# Altium integrated library Altera Arria V GZ.IntLib: 32 symbols (part 7 of 36)
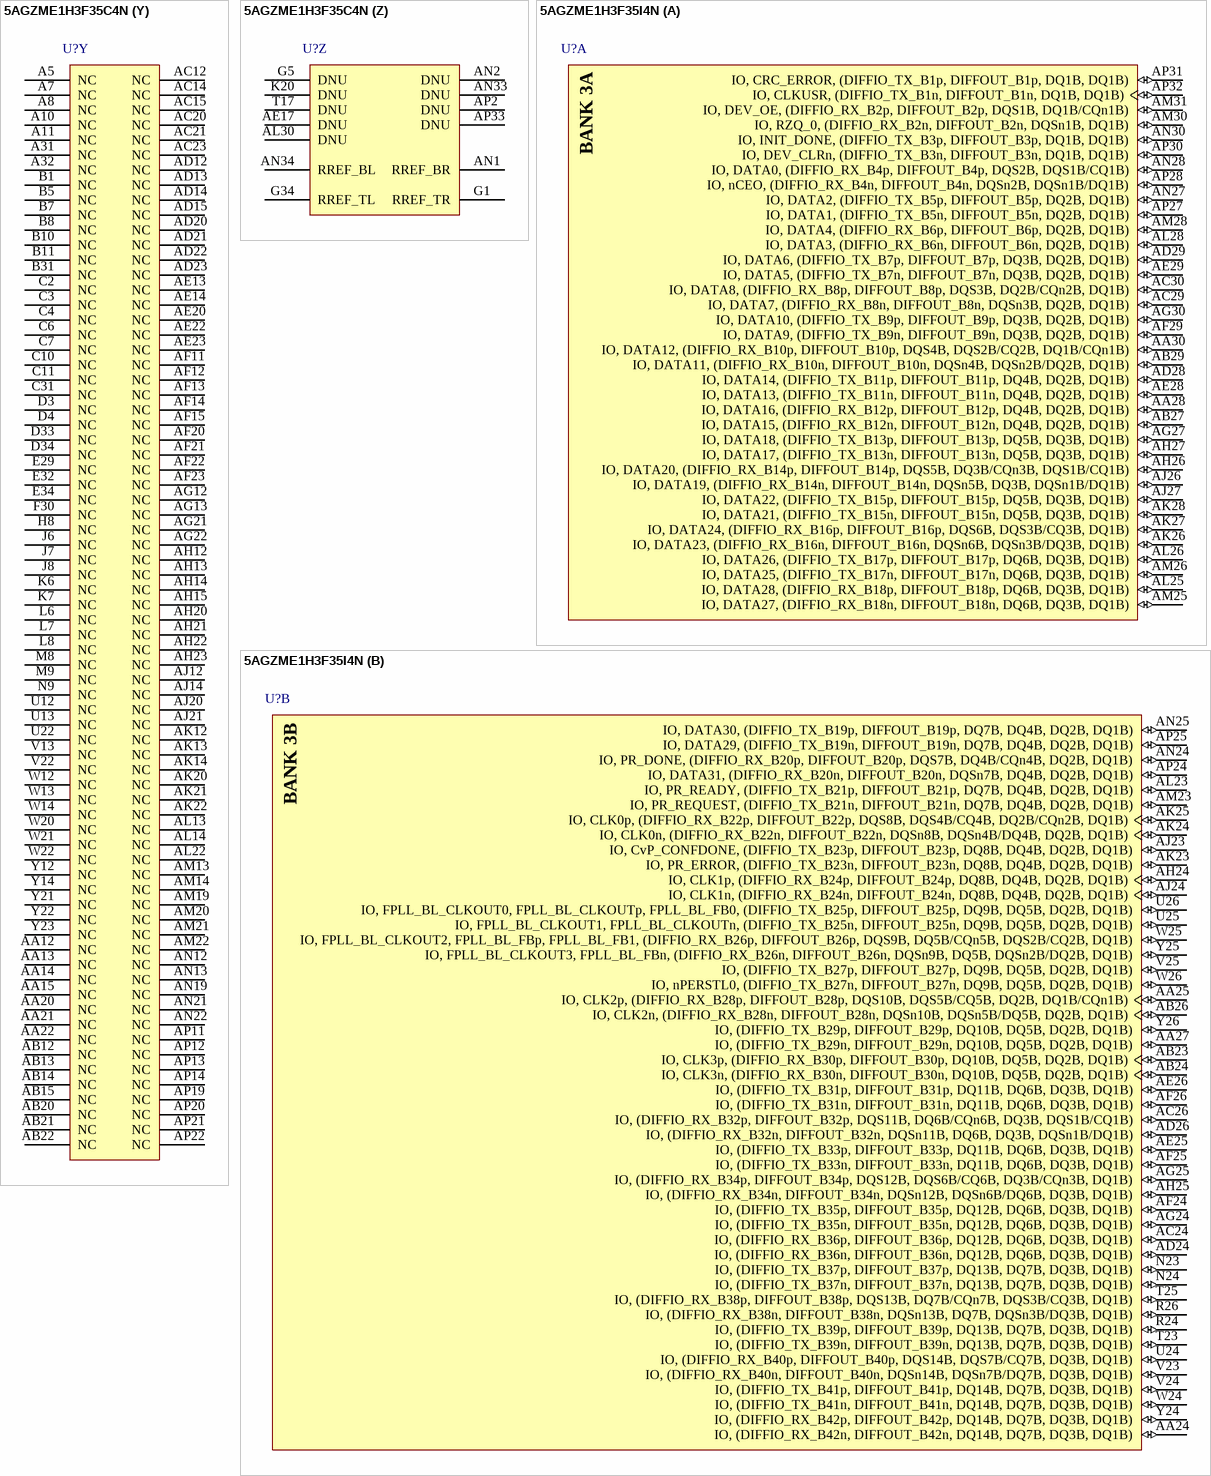
[diagram p207: symbols 5AGZME1H3F35C4N to 5AGZME1H3F35I4N]

## 5AGZME1H3F35C4N
designator U?
Arria V GZ Family FPGA, 0.82 to 0.88 V Supply, 414 I/O Pins, 20 PLLs, 1152-Pin FBGA, Speed Grade 4, Commercial Grade, RoHS Compliant; Manufacturer: Altera; Device Group: 5AGZME1; GPIO: 414; Logic Elements (LE) (K): 220; NexusDeviceID: 5AGZME1H3F35C4N; Pb-Free: TRUE; Speed Grade: 4; DatasheetVersion: Rev. 3.5; PackageVersion: Rev. 1.0, 05/2011; PackageReference: FBGA1152_A-350_D1-289; PackageDescription: 1152-Pin FineLine Ball-Grid Array (FBGA), Body 35 x 35 mm, Pitch 1 mm; Supplier 1: Digi-Key; Supplier Part Number 1: 5AGZME1H3F35C4N-ND; Supplier 2: Mouser; Supplier Part Number 2: 989-5AGZME1H3F35C4N; RoHS: RoHS Compliant; Subcategory: Arria V GZ; Voltage Supply: 0.82 to 0.88 V; Mounting Technology: Surface Mount; Code_JEDEC: MS-034; PartNumber: 5AGZME1H3F35C4N; ComponentLink1Description: Manufacturer URL; ComponentLink1URL: http://www.altera.com; ComponentLink2Description: Datasheet; ComponentLink2URL: http://www.altera.com/literature/hb/arria-v/av_51002.pdf; ComponentLink3Description: Package Specification; ComponentLink3URL: http://www.altera.com/devicepackaging/04R00390-02.pdf; ComponentLink4Description: Device Handbook URL; ComponentLink4URL: http://www.altera.com/literature/hb/arria-v/arriav_handbook.pdf; ComponentLink5Description: Device Overview URL; ComponentLink5URL: http://www.altera.com/literature/hb/arria-v/av_51001.pdf; ComponentLink6Description: Device Pin-Out URL; ComponentLink6URL: http://www.altera.com/literature/dp/arria-v/5AGZME1.xls; ComponentLink7Description: Product URL; ComponentLink7URL: http://www.buyaltera.com/scripts/partsearch.dll?Detail&name=5AGZME1H3F35C4N-ND
footprint ALTR-FBGA1152_A-350_D1-289 (BGA, 1152-Balls, Body 35x35mm, Pitch 1mm)
part A pins: AA28 IO, DATA16, (DIFFIO_RX_B12p, DIFFOUT_B12p, DQ4B, DQ2B, DQ1B) (io), AA30 IO, DATA12, (DIFFIO_RX_B10p, DIFFOUT_B10p, DQS4B, DQS2B/CQ2B, DQ1B/CQn1B) (io), AB27 IO, DATA15, (DIFFIO_RX_B12n, DIFFOUT_B12n, DQ4B, DQ2B, DQ1B) (io), AB29 IO, DATA11, (DIFFIO_RX_B10n, DIFFOUT_B10n, DQSn4B, DQSn2B/DQ2B, DQ1B) (io), AC29 IO, DATA7, (DIFFIO_RX_B8n, DIFFOUT_B8n, DQSn3B, DQ2B, DQ1B) (io), AC30 IO, DATA8, (DIFFIO_RX_B8p, DIFFOUT_B8p, DQS3B, DQ2B/CQn2B, DQ1B) (io), AD28 IO, DATA14, (DIFFIO_TX_B11p, DIFFOUT_B11p, DQ4B, DQ2B, DQ1B) (io), AD29 IO, DATA6, (DIFFIO_TX_B7p, DIFFOUT_B7p, DQ3B, DQ2B, DQ1B) (io), AE28 IO, DATA13, (DIFFIO_TX_B11n, DIFFOUT_B11n, DQ4B, DQ2B, DQ1B) (io), AE29 IO, DATA5, (DIFFIO_TX_B7n, DIFFOUT_B7n, DQ3B, DQ2B, DQ1B) (io), AF29 IO, DATA9, (DIFFIO_TX_B9n, DIFFOUT_B9n, DQ3B, DQ2B, DQ1B) (io), AG27 IO, DATA18, (DIFFIO_TX_B13p, DIFFOUT_B13p, DQ5B, DQ3B, DQ1B) (io), AG30 IO, DATA10, (DIFFIO_TX_B9p, DIFFOUT_B9p, DQ3B, DQ2B, DQ1B) (io), AH26 IO, DATA20, (DIFFIO_RX_B14p, DIFFOUT_B14p, DQS5B, DQ3B/CQn3B, DQS1B/CQ1B) (io), AH27 IO, DATA17, (DIFFIO_TX_B13n, DIFFOUT_B13n, DQ5B, DQ3B, DQ1B) (io), AJ26 IO, DATA19, (DIFFIO_RX_B14n, DIFFOUT_B14n, DQSn5B, DQ3B, DQSn1B/DQ1B) (io), AJ27 IO, DATA22, (DIFFIO_TX_B15p, DIFFOUT_B15p, DQ5B, DQ3B, DQ1B) (io), AK26 IO, DATA23, (DIFFIO_RX_B16n, DIFFOUT_B16n, DQSn6B, DQSn3B/DQ3B, DQ1B) (io), AK27 IO, DATA24, (DIFFIO_RX_B16p, DIFFOUT_B16p, DQS6B, DQS3B/CQ3B, DQ1B) (io), AK28 IO, DATA21, (DIFFIO_TX_B15n, DIFFOUT_B15n, DQ5B, DQ3B, DQ1B) (io), AL25 IO, DATA28, (DIFFIO_RX_B18p, DIFFOUT_B18p, DQ6B, DQ3B, DQ1B) (io), AL26 IO, DATA26, (DIFFIO_TX_B17p, DIFFOUT_B17p, DQ6B, DQ3B, DQ1B) (io), AL28 IO, DATA3, (DIFFIO_RX_B6n, DIFFOUT_B6n, DQ2B, DQ1B) (io), AM25 IO, DATA27, (DIFFIO_RX_B18n, DIFFOUT_B18n, DQ6B, DQ3B, DQ1B) (io), AM26 IO, DATA25, (DIFFIO_TX_B17n, DIFFOUT_B17n, DQ6B, DQ3B, DQ1B) (io), AM28 IO, DATA4, (DIFFIO_RX_B6p, DIFFOUT_B6p, DQ2B, DQ1B) (io), AM30 IO, RZQ_0, (DIFFIO_RX_B2n, DIFFOUT_B2n, DQSn1B, DQ1B) (io), AM31 IO, DEV_OE, (DIFFIO_RX_B2p, DIFFOUT_B2p, DQS1B, DQ1B/CQn1B) (io), AN27 IO, DATA2, (DIFFIO_TX_B5p, DIFFOUT_B5p, DQ2B, DQ1B) (io), AN28 IO, DATA0, (DIFFIO_RX_B4p, DIFFOUT_B4p, DQS2B, DQS1B/CQ1B) (io), AN30 IO, INIT_DONE, (DIFFIO_TX_B3p, DIFFOUT_B3p, DQ1B, DQ1B) (io), AP27 IO, DATA1, (DIFFIO_TX_B5n, DIFFOUT_B5n, DQ2B, DQ1B) (io), AP28 IO, nCEO, (DIFFIO_RX_B4n, DIFFOUT_B4n, DQSn2B, DQSn1B/DQ1B) (io), AP30 IO, DEV_CLRn, (DIFFIO_TX_B3n, DIFFOUT_B3n, DQ1B, DQ1B) (io), AP31 IO, CRC_ERROR, (DIFFIO_TX_B1p, DIFFOUT_B1p, DQ1B, DQ1B) (io), AP32 IO, CLKUSR, (DIFFIO_TX_B1n, DIFFOUT_B1n, DQ1B, DQ1B) (io)
part B pins: AA24 IO, (DIFFIO_RX_B42n, DIFFOUT_B42n, DQ14B, DQ7B, DQ3B, DQ1B) (io), AA25 IO, CLK2p, (DIFFIO_RX_B28p, DIFFOUT_B28p, DQS10B, DQS5B/CQ5B, DQ2B, DQ1B/CQn1B) (io), AA27 IO, (DIFFIO_TX_B29n, DIFFOUT_B29n, DQ10B, DQ5B, DQ2B, DQ1B) (io), AB23 IO, CLK3p, (DIFFIO_RX_B30p, DIFFOUT_B30p, DQ10B, DQ5B, DQ2B, DQ1B) (io), AB24 IO, CLK3n, (DIFFIO_RX_B30n, DIFFOUT_B30n, DQ10B, DQ5B, DQ2B, DQ1B) (io), AB26 IO, CLK2n, (DIFFIO_RX_B28n, DIFFOUT_B28n, DQSn10B, DQSn5B/DQ5B, DQ2B, DQ1B) (io), AC24 IO, (DIFFIO_RX_B36p, DIFFOUT_B36p, DQ12B, DQ6B, DQ3B, DQ1B) (io), AC26 IO, (DIFFIO_RX_B32p, DIFFOUT_B32p, DQS11B, DQ6B/CQn6B, DQ3B, DQS1B/CQ1B) (io), AD24 IO, (DIFFIO_RX_B36n, DIFFOUT_B36n, DQ12B, DQ6B, DQ3B, DQ1B) (io), AD26 IO, (DIFFIO_RX_B32n, DIFFOUT_B32n, DQSn11B, DQ6B, DQ3B, DQSn1B/DQ1B) (io), AE25 IO, (DIFFIO_TX_B33p, DIFFOUT_B33p, DQ11B, DQ6B, DQ3B, DQ1B) (io), AE26 IO, (DIFFIO_TX_B31p, DIFFOUT_B31p, DQ11B, DQ6B, DQ3B, DQ1B) (io), AF24 IO, (DIFFIO_TX_B35p, DIFFOUT_B35p, DQ12B, DQ6B, DQ3B, DQ1B) (io), AF25 IO, (DIFFIO_TX_B33n, DIFFOUT_B33n, DQ11B, DQ6B, DQ3B, DQ1B) (io), AF26 IO, (DIFFIO_TX_B31n, DIFFOUT_B31n, DQ11B, DQ6B, DQ3B, DQ1B) (io), AG24 IO, (DIFFIO_TX_B35n, DIFFOUT_B35n, DQ12B, DQ6B, DQ3B, DQ1B) (io), AG25 IO, (DIFFIO_RX_B34p, DIFFOUT_B34p, DQS12B, DQS6B/CQ6B, DQ3B/CQn3B, DQ1B) (io), AH24 IO, CLK1p, (DIFFIO_RX_B24p, DIFFOUT_B24p, DQ8B, DQ4B, DQ2B, DQ1B) (io), AH25 IO, (DIFFIO_RX_B34n, DIFFOUT_B34n, DQSn12B, DQSn6B/DQ6B, DQ3B, DQ1B) (io), AJ23 IO, CvP_CONFDONE, (DIFFIO_TX_B23p, DIFFOUT_B23p, DQ8B, DQ4B, DQ2B, DQ1B) (io), AJ24 IO, CLK1n, (DIFFIO_RX_B24n, DIFFOUT_B24n, DQ8B, DQ4B, DQ2B, DQ1B) (io), AK23 IO, PR_ERROR, (DIFFIO_TX_B23n, DIFFOUT_B23n, DQ8B, DQ4B, DQ2B, DQ1B) (io), AK24 IO, CLK0n, (DIFFIO_RX_B22n, DIFFOUT_B22n, DQSn8B, DQSn4B/DQ4B, DQ2B, DQ1B) (io), AK25 IO, CLK0p, (DIFFIO_RX_B22p, DIFFOUT_B22p, DQS8B, DQS4B/CQ4B, DQ2B/CQn2B, DQ1B) (io), AL23 IO, PR_READY, (DIFFIO_TX_B21p, DIFFOUT_B21p, DQ7B, DQ4B, DQ2B, DQ1B) (io), AM23 IO, PR_REQUEST, (DIFFIO_TX_B21n, DIFFOUT_B21n, DQ7B, DQ4B, DQ2B, DQ1B) (io), AN24 IO, PR_DONE, (DIFFIO_RX_B20p, DIFFOUT_B20p, DQS7B, DQ4B/CQn4B, DQ2B, DQ1B) (io), AN25 IO, DATA30, (DIFFIO_TX_B19p, DIFFOUT_B19p, DQ7B, DQ4B, DQ2B, DQ1B) (io), AP24 IO, DATA31, (DIFFIO_RX_B20n, DIFFOUT_B20n, DQSn7B, DQ4B, DQ2B, DQ1B) (io), AP25 IO, DATA29, (DIFFIO_TX_B19n, DIFFOUT_B19n, DQ7B, DQ4B, DQ2B, DQ1B) (io), N23 IO, (DIFFIO_TX_B37p, DIFFOUT_B37p, DQ13B, DQ7B, DQ3B, DQ1B) (io), N24 IO, (DIFFIO_TX_B37n, DIFFOUT_B37n, DQ13B, DQ7B, DQ3B, DQ1B) (io), R24 IO, (DIFFIO_TX_B39p, DIFFOUT_B39p, DQ13B, DQ7B, DQ3B, DQ1B) (io), R26 IO, (DIFFIO_RX_B38n, DIFFOUT_B38n, DQSn13B, DQ7B, DQSn3B/DQ3B, DQ1B) (io), T23 IO, (DIFFIO_TX_B39n, DIFFOUT_B39n, DQ13B, DQ7B, DQ3B, DQ1B) (io), T25 IO, (DIFFIO_RX_B38p, DIFFOUT_B38p, DQS13B, DQ7B/CQn7B, DQS3B/CQ3B, DQ1B) (io), U24 IO, (DIFFIO_RX_B40p, DIFFOUT_B40p, DQS14B, DQS7B/CQ7B, DQ3B, DQ1B) (io), U25 IO, FPLL_BL_CLKOUT1, FPLL_BL_CLKOUTn, (DIFFIO_TX_B25n, DIFFOUT_B25n, DQ9B, DQ5B, DQ2B, DQ1B) (io), U26 IO, FPLL_BL_CLKOUT0, FPLL_BL_CLKOUTp, FPLL_BL_FB0, (DIFFIO_TX_B25p, DIFFOUT_B25p, DQ9B, DQ5B, DQ2B, DQ1B) (io), V23 IO, (DIFFIO_RX_B40n, DIFFOUT_B40n, DQSn14B, DQSn7B/DQ7B, DQ3B, DQ1B) (io), V24 IO, (DIFFIO_TX_B41p, DIFFOUT_B41p, DQ14B, DQ7B, DQ3B, DQ1B) (io), V25 IO, (DIFFIO_TX_B27p, DIFFOUT_B27p, DQ9B, DQ5B, DQ2B, DQ1B) (io), W24 IO, (DIFFIO_TX_B41n, DIFFOUT_B41n, DQ14B, DQ7B, DQ3B, DQ1B) (io), W25 IO, FPLL_BL_CLKOUT2, FPLL_BL_FBp, FPLL_BL_FB1, (DIFFIO_RX_B26p, DIFFOUT_B26p, DQS9B, DQ5B/CQn5B, DQS2B/CQ2B, DQ1B) (io), W26 IO, nPERSTL0, (DIFFIO_TX_B27n, DIFFOUT_B27n, DQ9B, DQ5B, DQ2B, DQ1B) (io), Y24 IO, (DIFFIO_RX_B42p, DIFFOUT_B42p, DQ14B, DQ7B, DQ3B, DQ1B) (io), Y25 IO, FPLL_BL_CLKOUT3, FPLL_BL_FBn, (DIFFIO_RX_B26n, DIFFOUT_B26n, DQSn9B, DQ5B, DQSn2B/DQ2B, DQ1B) (io), Y26 IO, (DIFFIO_TX_B29p, DIFFOUT_B29p, DQ10B, DQ5B, DQ2B, DQ1B) (io)
part C pins: AA18 IO, (DIFFIO_RX_B74n, DIFFOUT_B74n, DQSn25B, DQ9B, DQSn4B/DQ4B) (io), AB18 IO, CLK4p, (DIFFIO_RX_B76p, DIFFOUT_B76p, DQS26B, DQS9B/CQ9B, DQ4B) (io), AB19 IO, CLK4n, (DIFFIO_RX_B76n, DIFFOUT_B76n, DQSn26B, DQSn9B/DQ9B, DQ4B) (io), AE19 IO, (DIFFIO_TX_B77p, DIFFOUT_B77p, DQ26B, DQ9B, DQ4B) (io), AF18 IO, CLK5p, (DIFFIO_RX_B78p, DIFFOUT_B78p, DQ26B, DQ9B, DQ4B) (io), AF19 IO, (DIFFIO_TX_B77n, DIFFOUT_B77n, DQ26B, DQ9B, DQ4B) (io), AG18 IO, CLK5n, (DIFFIO_RX_B78n, DIFFOUT_B78n, DQ26B, DQ9B, DQ4B) (io), AG19 IO, (DIFFIO_TX_B71p, DIFFOUT_B71p, DQ24B, DQ8B, DQ4B) (io), AH18 IO, (DIFFIO_TX_B71n, DIFFOUT_B71n, DQ24B, DQ8B, DQ4B) (io), AJ18 IO, (DIFFIO_RX_B72p, DIFFOUT_B72p, DQ24B, DQ8B, DQ4B) (io), AK17 IO, (DIFFIO_RX_B70p, DIFFOUT_B70p, DQS24B, DQS8B/CQ8B, DQ4B/CQn4B) (io), AK18 IO, (DIFFIO_RX_B70n, DIFFOUT_B70n, DQSn24B, DQSn8B/DQ8B, DQ4B) (io), AK19 IO, (DIFFIO_RX_B72n, DIFFOUT_B72n, DQ24B, DQ8B, DQ4B) (io), AL17 IO, (DIFFIO_TX_B69p, DIFFOUT_B69p, DQ23B, DQ8B, DQ4B) (io), AL19 IO, (DIFFIO_RX_B68p, DIFFOUT_B68p, DQS23B, DQ8B/CQn8B, DQ4B) (io), AM17 IO, (DIFFIO_TX_B69n, DIFFOUT_B69n, DQ23B, DQ8B, DQ4B) (io), AM18 IO, (DIFFIO_RX_B68n, DIFFOUT_B68n, DQSn23B, DQ8B, DQ4B) (io), AN18 IO, (DIFFIO_TX_B67p, DIFFOUT_B67p, DQ23B, DQ8B, DQ4B) (io), AP18 IO, (DIFFIO_TX_B67n, DIFFOUT_B67n, DQ23B, DQ8B, DQ4B) (io), W18 IO, (DIFFIO_TX_B75p, DIFFOUT_B75p, DQ25B, DQ9B, DQ4B) (io), W19 IO, (DIFFIO_TX_B73p, DIFFOUT_B73p, DQ25B, DQ9B, DQ4B) (io), Y17 IO, (DIFFIO_RX_B74p, DIFFOUT_B74p, DQS25B, DQ9B/CQn9B, DQS4B/CQ4B) (io), Y18 IO, (DIFFIO_TX_B75n, DIFFOUT_B75n, DQ25B, DQ9B, DQ4B) (io), Y19 IO, (DIFFIO_TX_B73n, DIFFOUT_B73n, DQ25B, DQ9B, DQ4B) (io)
part D pins: AB6 IO, CLK10p, (DIFFIO_RX_B154p, DIFFOUT_B154p, DQS52B, DQS16B/CQ16B, DQ8B/CQn8B) (io), AB7 IO, CLK10n, (DIFFIO_RX_B154n, DIFFOUT_B154n, DQSn52B, DQSn16B/DQ16B, DQ8B) (io), AB8 IO, CLK11p, (DIFFIO_RX_B152p, DIFFOUT_B152p, DQS51B, DQ16B/CQn16B, DQ8B) (io), AC6 IO, FPLL_BR_CLKOUT2, FPLL_BR_FBp, FPLL_BR_FB1, (DIFFIO_RX_B156p, DIFFOUT_B156p, DQ52B, DQ16B, DQ8B) (io), AC8 IO, CLK11n, (DIFFIO_RX_B152n, DIFFOUT_B152n, DQSn51B, DQ16B, DQ8B) (io), AD6 IO, FPLL_BR_CLKOUT3, FPLL_BR_FBn, (DIFFIO_RX_B156n, DIFFOUT_B156n, DQ52B, DQ16B, DQ8B) (io), AD7 IO, (DIFFIO_TX_B151p, DIFFOUT_B151p, DQ51B, DQ16B, DQ8B) (io), AD8 IO, (DIFFIO_TX_B151n, DIFFOUT_B151n, DQ51B, DQ16B, DQ8B) (io), AF6 IO, FPLL_BR_CLKOUT0, FPLL_BR_CLKOUTp, FPLL_BR_FB0, (DIFFIO_TX_B155p, DIFFOUT_B155p, DQ52B, DQ16B, DQ8B) (io), AF7 IO, (DIFFIO_TX_B153p, DIFFOUT_B153p, DQ51B, DQ16B, DQ8B) (io), AG6 IO, FPLL_BR_CLKOUT1, FPLL_BR_CLKOUTn, (DIFFIO_TX_B155n, DIFFOUT_B155n, DQ52B, DQ16B, DQ8B) (io), AG7 IO, (DIFFIO_TX_B153n, DIFFOUT_B153n, DQ51B, DQ16B, DQ8B) (io), AK8 IO, (DIFFIO_TX_B157p, DIFFOUT_B157p, DQ53B, DQ17B, DQ8B) (io), AL7 IO, CLK9p, (DIFFIO_RX_B158p, DIFFOUT_B158p, DQS53B, DQ17B/CQn17B, DQS8B/CQ8B) (io), AL8 IO, (DIFFIO_TX_B157n, DIFFOUT_B157n, DQ53B, DQ17B, DQ8B) (io), AM5 IO, (DIFFIO_RX_B162n, DIFFOUT_B162n, DQ54B, DQ17B, DQ8B) (io), AM6 IO, RZQ_1, (DIFFIO_RX_B162p, DIFFOUT_B162p, DQ54B, DQ17B, DQ8B) (io), AM7 IO, CLK9n, (DIFFIO_RX_B158n, DIFFOUT_B158n, DQSn53B, DQ17B, DQSn8B/DQ8B) (io), AN4 IO, CLK8p, (DIFFIO_RX_B160p, DIFFOUT_B160p, DQS54B, DQS17B/CQ17B, DQ8B) (io), AN6 IO, (DIFFIO_TX_B161p, DIFFOUT_B161p, DQ54B, DQ17B, DQ8B) (io), AN7 IO, (DIFFIO_TX_B159p, DIFFOUT_B159p, DQ53B, DQ17B, DQ8B) (io), AP4 IO, CLK8n, (DIFFIO_RX_B160n, DIFFOUT_B160n, DQSn54B, DQSn17B/DQ17B, DQ8B) (io), AP6 IO, (DIFFIO_TX_B161n, DIFFOUT_B161n, DQ54B, DQ17B, DQ8B) (io), AP7 IO, (DIFFIO_TX_B159n, DIFFOUT_B159n, DQ53B, DQ17B, DQ8B) (io)
part E pins: AA8 IO, (DIFFIO_TX_B141n, DIFFOUT_B141n, DQ47B, DQ14B, DQ7B, DQ2B) (io), AA9 IO, (DIFFIO_TX_B139p, DIFFOUT_B139p, DQ47B, DQ14B, DQ7B, DQ2B) (io), AB9 IO, (DIFFIO_TX_B139n, DIFFOUT_B139n, DQ47B, DQ14B, DQ7B, DQ2B) (io), AB10 IO, (DIFFIO_RX_B128n, DIFFOUT_B128n, DQSn43B, DQ12B, DQ6B, DQ2B) (io), AB11 IO, (DIFFIO_RX_B128p, DIFFOUT_B128p, DQS43B, DQ12B/CQn12B, DQ6B, DQ2B) (io), AC9 IO, (DIFFIO_RX_B140p, DIFFOUT_B140p, DQS47B, DQ14B/CQn14B, DQ7B, DQS2B/CQ2B) (io), AC11 IO, (DIFFIO_TX_B127n, DIFFOUT_B127n, DQ43B, DQ12B, DQ6B, DQ2B) (io), AD9 IO, (DIFFIO_RX_B140n, DIFFOUT_B140n, DQSn47B, DQ14B, DQ7B, DQSn2B/DQ2B) (io), AD11 IO, (DIFFIO_TX_B127p, DIFFOUT_B127p, DQ43B, DQ12B, DQ6B, DQ2B) (io), AE8 IO, (DIFFIO_RX_B136p, DIFFOUT_B136p, DQS46B, DQS13B/CQ13B, DQ6B, DQ2B/CQn2B) (io), AE10 IO, (DIFFIO_TX_B129n, DIFFOUT_B129n, DQ43B, DQ12B, DQ6B, DQ2B) (io), AE11 IO, (DIFFIO_TX_B129p, DIFFOUT_B129p, DQ43B, DQ12B, DQ6B, DQ2B) (io), AF8 IO, (DIFFIO_RX_B136n, DIFFOUT_B136n, DQSn46B, DQSn13B/DQ13B, DQ6B, DQ2B) (io), AF9 IO, (DIFFIO_TX_B135p, DIFFOUT_B135p, DQ45B, DQ13B, DQ6B, DQ2B) (io), AF10 IO, (DIFFIO_TX_B135n, DIFFOUT_B135n, DQ45B, DQ13B, DQ6B, DQ2B) (io), AG9 IO, (DIFFIO_RX_B138p, DIFFOUT_B138p, DQ46B, DQ13B, DQ6B, DQ2B) (io), AG10 IO, (DIFFIO_RX_B134p, DIFFOUT_B134p, DQS45B, DQ13B/CQn13B, DQS6B/CQ6B, DQ2B) (io), AH8 IO, (DIFFIO_TX_B137p, DIFFOUT_B137p, DQ46B, DQ13B, DQ6B, DQ2B) (io), AH9 IO, (DIFFIO_RX_B138n, DIFFOUT_B138n, DQ46B, DQ13B, DQ6B, DQ2B) (io), AH10 IO, (DIFFIO_RX_B134n, DIFFOUT_B134n, DQSn45B, DQ13B, DQSn6B/DQ6B, DQ2B) (io), AH11 IO, (DIFFIO_TX_B133p, DIFFOUT_B133p, DQ45B, DQ13B, DQ6B, DQ2B) (io), AJ8 IO, (DIFFIO_TX_B137n, DIFFOUT_B137n, DQ46B, DQ13B, DQ6B, DQ2B) (io), AJ9 IO, (DIFFIO_RX_B146p, DIFFOUT_B146p, DQS49B, DQ15B/CQn15B, DQS7B/CQ7B, DQ2B) (io), AJ11 IO, (DIFFIO_TX_B133n, DIFFOUT_B133n, DQ45B, DQ13B, DQ6B, DQ2B) (io), AK9 IO, (DIFFIO_RX_B146n, DIFFOUT_B146n, DQSn49B, DQ15B, DQSn7B/DQ7B, DQ2B) (io), AK10 IO, (DIFFIO_TX_B145p, DIFFOUT_B145p, DQ49B, DQ15B, DQ7B, DQ2B) (io), AK11 IO, (DIFFIO_TX_B145n, DIFFOUT_B145n, DQ49B, DQ15B, DQ7B, DQ2B) (io), AL10 IO, (DIFFIO_RX_B148p, DIFFOUT_B148p, DQS50B, DQS15B/CQ15B, DQ7B, DQ2B) (io), AL11 IO, (DIFFIO_TX_B147p, DIFFOUT_B147p, DQ49B, DQ15B, DQ7B, DQ2B) (io), AM10 IO, (DIFFIO_RX_B148n, DIFFOUT_B148n, DQSn50B, DQSn15B/DQ15B, DQ7B, DQ2B) (io), AM11 IO, (DIFFIO_TX_B147n, DIFFOUT_B147n, DQ49B, DQ15B, DQ7B, DQ2B) (io), AN9 IO, (DIFFIO_TX_B149p, DIFFOUT_B149p, DQ50B, DQ15B, DQ7B, DQ2B) (io), AN10 IO, (DIFFIO_RX_B150p, DIFFOUT_B150p, DQ50B, DQ15B, DQ7B, DQ2B) (io), AP9 IO, (DIFFIO_TX_B149n, DIFFOUT_B149n, DQ50B, DQ15B, DQ7B, DQ2B) (io), AP10 IO, (DIFFIO_RX_B150n, DIFFOUT_B150n, DQ50B, DQ15B, DQ7B, DQ2B) (io), R10 IO, (DIFFIO_RX_B142p, DIFFOUT_B142p, DQS48B, DQS14B/CQ14B, DQ7B/CQn7B, DQ2B) (io), T10 IO, (DIFFIO_RX_B142n, DIFFOUT_B142n, DQSn48B, DQSn14B/DQ14B, DQ7B, DQ2B) (io), U9 IO, (DIFFIO_RX_B144p, DIFFOUT_B144p, DQ48B, DQ14B, DQ7B, DQ2B) (io), U10 IO, (DIFFIO_TX_B131p, DIFFOUT_B131p, DQ44B, DQ12B, DQ6B, DQ2B) (io), U11 IO, (DIFFIO_TX_B131n, DIFFOUT_B131n, DQ44B, DQ12B, DQ6B, DQ2B) (io), V10 IO, (DIFFIO_RX_B144n, DIFFOUT_B144n, DQ48B, DQ14B, DQ7B, DQ2B) (io), V11 IO, (DIFFIO_RX_B130p, DIFFOUT_B130p, DQS44B, DQS12B/CQ12B, DQ6B/CQn6B, DQ2B) (io), W9 IO, (DIFFIO_TX_B143p, DIFFOUT_B143p, DQ48B, DQ14B, DQ7B, DQ2B) (io), W10 IO, (DIFFIO_TX_B143n, DIFFOUT_B143n, DQ48B, DQ14B, DQ7B, DQ2B) (io), W11 IO, (DIFFIO_RX_B130n, DIFFOUT_B130n, DQSn44B, DQSn12B/DQ12B, DQ6B, DQ2B) (io), Y9 IO, (DIFFIO_TX_B141p, DIFFOUT_B141p, DQ47B, DQ14B, DQ7B, DQ2B) (io), Y10 IO, (DIFFIO_RX_B132p, DIFFOUT_B132p, DQ44B, DQ12B, DQ6B, DQ2B) (io), Y11 IO, (DIFFIO_RX_B132n, DIFFOUT_B132n, DQ44B, DQ12B, DQ6B, DQ2B) (io)
part F pins: AC17 IO, FPLL_BC_CLKOUT0, FPLL_BC_CLKOUTp, FPLL_BC_FB0, (DIFFIO_TX_B91p, DIFFOUT_B91p, DQ31B, DQ10B, DQ5B) (io), AD16 IO, CLK7n, (DIFFIO_RX_B96n, DIFFOUT_B96n, DQ32B, DQ10B, DQ5B) (io), AD17 IO, FPLL_BC_CLKOUT1, FPLL_BC_CLKOUTn, (DIFFIO_TX_B91n, DIFFOUT_B91n, DQ31B, DQ10B, DQ5B) (io), AE16 IO, CLK7p, (DIFFIO_RX_B96p, DIFFOUT_B96p, DQ32B, DQ10B, DQ5B) (io), AF16 IO, CLK6p, (DIFFIO_RX_B94p, DIFFOUT_B94p, DQS32B, DQS10B/CQ10B, DQ5B/CQn5B) (io), AF17 IO, CLK6n, (DIFFIO_RX_B94n, DIFFOUT_B94n, DQSn32B, DQSn10B/DQ10B, DQ5B) (io), AG15 IO, (DIFFIO_TX_B95n, DIFFOUT_B95n, DQ32B, DQ10B, DQ5B) (io), AG16 IO, (DIFFIO_TX_B95p, DIFFOUT_B95p, DQ32B, DQ10B, DQ5B) (io), AH16 IO, (DIFFIO_TX_B97p, DIFFOUT_B97p, DQ33B, DQ11B, DQ5B) (io), AH17 IO, (DIFFIO_TX_B97n, DIFFOUT_B97n, DQ33B, DQ11B, DQ5B) (io), AJ15 IO, (DIFFIO_RX_B98p, DIFFOUT_B98p, DQS33B, DQ11B/CQn11B, DQS5B/CQ5B) (io), AJ17 IO, (DIFFIO_TX_B99p, DIFFOUT_B99p, DQ33B, DQ11B, DQ5B) (io), AK15 IO, (DIFFIO_RX_B98n, DIFFOUT_B98n, DQSn33B, DQ11B, DQSn5B/DQ5B) (io), AK16 IO, (DIFFIO_TX_B99n, DIFFOUT_B99n, DQ33B, DQ11B, DQ5B) (io), AL16 IO, (DIFFIO_RX_B100n, DIFFOUT_B100n, DQSn34B, DQSn11B/DQ11B, DQ5B) (io), AM16 IO, (DIFFIO_RX_B100p, DIFFOUT_B100p, DQS34B, DQS11B/CQ11B, DQ5B) (io), AN15 IO, (DIFFIO_RX_B102p, DIFFOUT_B102p, DQ34B, DQ11B, DQ5B) (io), AN16 IO, (DIFFIO_TX_B101p, DIFFOUT_B101p, DQ34B, DQ11B, DQ5B) (io), AP15 IO, (DIFFIO_RX_B102n, DIFFOUT_B102n, DQ34B, DQ11B, DQ5B) (io), AP16 IO, (DIFFIO_TX_B101n, DIFFOUT_B101n, DQ34B, DQ11B, DQ5B) (io), W15 IO, (DIFFIO_TX_B93p, DIFFOUT_B93p, DQ31B, DQ10B, DQ5B) (io), W16 IO, (DIFFIO_TX_B93n, DIFFOUT_B93n, DQ31B, DQ10B, DQ5B) (io), W17 IO, FPLL_BC_CLKOUT3, FPLL_BC_FBn, (DIFFIO_RX_B92n, DIFFOUT_B92n, DQSn31B, DQ10B, DQ5B) (io), Y16 IO, FPLL_BC_CLKOUT2, FPLL_BC_FBp, FPLL_BC_FB1, (DIFFIO_RX_B92p, DIFFOUT_B92p, DQS31B, DQ10B/CQn10B, DQ5B) (io)
part G pins: A2 IO, CLK13n, (DIFFIO_RX_T5n, DIFFOUT_T5n) (io), A4 IO, CLK15n, (DIFFIO_RX_T11n, DIFFOUT_T11n) (io), B2 IO, CLK13p, (DIFFIO_RX_T5p, DIFFOUT_T5p) (io), B4 IO, CLK15p, (DIFFIO_RX_T11p, DIFFOUT_T11p) (io), D1 IO, CLK12n, (DIFFIO_RX_T3n, DIFFOUT_T3n, DQSn1T) (io), D6 IO, CLK14p, (DIFFIO_RX_T9p, DIFFOUT_T9p, DQS3T) (io), D7 IO, CLK14n, (DIFFIO_RX_T9n, DIFFOUT_T9n, DQSn3T) (io), E1 IO, CLK12p, (DIFFIO_RX_T3p, DIFFOUT_T3p, DQS1T) (io), E2 IO, (DIFFIO_TX_T2p, DIFFOUT_T2p, DQ1T) (io), E3 IO, (DIFFIO_TX_T2n, DIFFOUT_T2n, DQ1T) (io), E4 IO, FPLL_TR_CLKOUT2, FPLL_TR_FBp, FPLL_TR_FB1, (DIFFIO_RX_T7p, DIFFOUT_T7p, DQ3T) (io), E5 IO, FPLL_TR_CLKOUT3, FPLL_TR_FBn, (DIFFIO_RX_T7n, DIFFOUT_T7n, DQ3T) (io), E6 IO, FPLL_TR_CLKOUT1, FPLL_TR_CLKOUTn, (DIFFIO_TX_T8n, DIFFOUT_T8n, DQ3T) (io), F3 IO, RZQ_4, (DIFFIO_RX_T1p, DIFFOUT_T1p, DQ1T) (io), F4 IO, (DIFFIO_RX_T1n, DIFFOUT_T1n, DQ1T) (io), F5 IO, FPLL_TR_CLKOUT0, FPLL_TR_CLKOUTp, FPLL_TR_FB0, (DIFFIO_TX_T8p, DIFFOUT_T8p, DQ3T) (io)
part H pins: C9 IO, (DIFFIO_RX_T27n, DIFFOUT_T27n, DQSn9T, DQSn3T/DQ3T, DQ2T) (io), D9 IO, (DIFFIO_RX_T27p, DIFFOUT_T27p, DQS9T, DQS3T/CQ3T, DQ2T) (io), D10 IO, (DIFFIO_TX_T30p, DIFFOUT_T30p, DQ10T, DQ3T, DQ2T) (io), E7 IO, (DIFFIO_RX_T25p, DIFFOUT_T25p, DQ9T, DQ3T, DQ2T) (io), E8 IO, (DIFFIO_RX_T25n, DIFFOUT_T25n, DQ9T, DQ3T, DQ2T) (io), E9 IO, (DIFFIO_RX_T29n, DIFFOUT_T29n, DQSn10T, DQ3T, DQSn2T/DQ2T) (io), E10 IO, (DIFFIO_RX_T29p, DIFFOUT_T29p, DQS10T, DQ3T/CQn3T, DQS2T/CQ2T) (io), E11 IO, (DIFFIO_TX_T30n, DIFFOUT_T30n, DQ10T, DQ3T, DQ2T) (io), F8 IO, (DIFFIO_TX_T28p, DIFFOUT_T28p, DQ10T, DQ3T, DQ2T) (io), F9 IO, (DIFFIO_TX_T28n, DIFFOUT_T28n, DQ10T, DQ3T, DQ2T) (io), G7 IO, (DIFFIO_TX_T26p, DIFFOUT_T26p, DQ9T, DQ3T, DQ2T) (io), G8 IO, (DIFFIO_TX_T26n, DIFFOUT_T26n, DQ9T, DQ3T, DQ2T) (io), G9 IO, (DIFFIO_TX_T36n, DIFFOUT_T36n, DQ12T, DQ4T, DQ2T) (io), G10 IO, (DIFFIO_TX_T36p, DIFFOUT_T36p, DQ12T, DQ4T, DQ2T) (io), H10 IO, (DIFFIO_RX_T35n, DIFFOUT_T35n, DQSn12T, DQ4T, DQ2T) (io), J9 IO, (DIFFIO_TX_T34n, DIFFOUT_T34n, DQ12T, DQ4T, DQ2T) (io), J10 IO, (DIFFIO_RX_T35p, DIFFOUT_T35p, DQS12T, DQ4T/CQn4T, DQ2T) (io), K9 IO, (DIFFIO_TX_T34p, DIFFOUT_T34p, DQ12T, DQ4T, DQ2T) (io), L9 IO, (DIFFIO_RX_T33n, DIFFOUT_T33n, DQSn11T, DQSn4T/DQ4T, DQ2T) (io), L10 IO, (DIFFIO_RX_T33p, DIFFOUT_T33p, DQS11T, DQS4T/CQ4T, DQ2T/CQn2T) (io), N10 IO, (DIFFIO_TX_T32p, DIFFOUT_T32p, DQ11T, DQ4T, DQ2T) (io), P10 IO, (DIFFIO_TX_T32n, DIFFOUT_T32n, DQ11T, DQ4T, DQ2T) (io), R9 IO, (DIFFIO_RX_T31n, DIFFOUT_T31n, DQ11T, DQ4T, DQ2T) (io), T9 IO, (DIFFIO_RX_T31p, DIFFOUT_T31p, DQ11T, DQ4T, DQ2T) (io)
part I pins: A13 IO, (DIFFIO_TX_T38p, DIFFOUT_T38p, DQ13T, DQ5T, DQ3T, DQ1T) (io), A14 IO, (DIFFIO_TX_T38n, DIFFOUT_T38n, DQ13T, DQ5T, DQ3T, DQ1T) (io), B13 IO, (DIFFIO_TX_T40n, DIFFOUT_T40n, DQ14T, DQ5T, DQ3T, DQ1T) (io), B14 IO, (DIFFIO_RX_T37n, DIFFOUT_T37n, DQ13T, DQ5T, DQ3T, DQ1T) (io), B16 IO, (DIFFIO_RX_T39n, DIFFOUT_T39n, DQSn13T, DQSn5T/DQ5T, DQ3T, DQ1T) (io), C12 IO, (DIFFIO_TX_T44n, DIFFOUT_T44n, DQ15T, DQ6T, DQ3T, DQ1T) (io), C13 IO, (DIFFIO_TX_T40p, DIFFOUT_T40p, DQ14T, DQ5T, DQ3T, DQ1T) (io), C15 IO, (DIFFIO_RX_T37p, DIFFOUT_T37p, DQ13T, DQ5T, DQ3T, DQ1T) (io), C16 IO, (DIFFIO_RX_T39p, DIFFOUT_T39p, DQS13T, DQS5T/CQ5T, DQ3T, DQ1T) (io), D12 IO, (DIFFIO_TX_T44p, DIFFOUT_T44p, DQ15T, DQ6T, DQ3T, DQ1T) (io), D13 IO, (DIFFIO_TX_T46p, DIFFOUT_T46p, DQ16T, DQ6T, DQ3T, DQ1T) (io), D15 IO, (DIFFIO_TX_T42n, DIFFOUT_T42n, DQ14T, DQ5T, DQ3T, DQ1T) (io), D16 IO, (DIFFIO_RX_T41n, DIFFOUT_T41n, DQSn14T, DQ5T, DQSn3T/DQ3T, DQ1T) (io), E12 IO, (DIFFIO_RX_T43p, DIFFOUT_T43p, DQ15T, DQ6T, DQ3T, DQ1T) (io), E13 IO, (DIFFIO_TX_T46n, DIFFOUT_T46n, DQ16T, DQ6T, DQ3T, DQ1T) (io), E14 IO, (DIFFIO_TX_T48n, DIFFOUT_T48n, DQ16T, DQ6T, DQ3T, DQ1T) (io), E15 IO, (DIFFIO_TX_T42p, DIFFOUT_T42p, DQ14T, DQ5T, DQ3T, DQ1T) (io), E16 IO, (DIFFIO_RX_T41p, DIFFOUT_T41p, DQS14T, DQ5T/CQn5T, DQS3T/CQ3T, DQ1T) (io), F11 IO, (DIFFIO_RX_T45n, DIFFOUT_T45n, DQSn15T, DQSn6T/DQ6T, DQ3T, DQ1T) (io), F12 IO, (DIFFIO_RX_T43n, DIFFOUT_T43n, DQ15T, DQ6T, DQ3T, DQ1T) (io), F14 IO, (DIFFIO_TX_T48p, DIFFOUT_T48p, DQ16T, DQ6T, DQ3T, DQ1T) (io), F15 IO, (DIFFIO_RX_T47n, DIFFOUT_T47n, DQSn16T, DQ6T, DQ3T, DQSn1T/DQ1T) (io), G11 IO, (DIFFIO_RX_T45p, DIFFOUT_T45p, DQS15T, DQS6T/CQ6T, DQ3T/CQn3T, DQ1T) (io), G12 IO, (DIFFIO_TX_T52n, DIFFOUT_T52n, DQ18T, DQ7T, DQ4T, DQ1T) (io), G13 IO, (DIFFIO_RX_T55n, DIFFOUT_T55n, DQ19T, DQ8T, DQ4T, DQ1T) (io), G14 IO, (DIFFIO_TX_T56n, DIFFOUT_T56n, DQ19T, DQ8T, DQ4T, DQ1T) (io), G15 IO, (DIFFIO_RX_T47p, DIFFOUT_T47p, DQS16T, DQ6T/CQn6T, DQ3T, DQS1T/CQ1T) (io), G16 IO, (DIFFIO_TX_T58n, DIFFOUT_T58n, DQ20T, DQ8T, DQ4T, DQ1T) (io), H11 IO, (DIFFIO_TX_T52p, DIFFOUT_T52p, DQ18T, DQ7T, DQ4T, DQ1T) (io), H13 IO, (DIFFIO_RX_T55p, DIFFOUT_T55p, DQ19T, DQ8T, DQ4T, DQ1T) (io), H14 IO, (DIFFIO_TX_T56p, DIFFOUT_T56p, DQ19T, DQ8T, DQ4T, DQ1T) (io), H16 IO, (DIFFIO_TX_T58p, DIFFOUT_T58p, DQ20T, DQ8T, DQ4T, DQ1T) (io), J12 IO, (DIFFIO_RX_T53n, DIFFOUT_T53n, DQSn18T, DQ7T, DQSn4T/DQ4T, DQ1T) (io), J13 IO, (DIFFIO_RX_T57n, DIFFOUT_T57n, DQSn19T, DQSn8T/DQ8T, DQ4T, DQ1T) (io), J14 IO, (DIFFIO_RX_T57p, DIFFOUT_T57p, DQS19T, DQS8T/CQ8T, DQ4T/CQn4T, DQ1T) (io), J15 IO, (DIFFIO_RX_T59p, DIFFOUT_T59p, DQS20T, DQ8T/CQn8T, DQ4T, DQ1T) (io), K12 IO, (DIFFIO_RX_T53p, DIFFOUT_T53p, DQS18T, DQ7T/CQn7T, DQS4T/CQ4T, DQ1T) (io), K13 IO, (DIFFIO_TX_T60n, DIFFOUT_T60n, DQ20T, DQ8T, DQ4T, DQ1T) (io), K14 IO, (DIFFIO_TX_T60p, DIFFOUT_T60p, DQ20T, DQ8T, DQ4T, DQ1T) (io), K15 IO, (DIFFIO_RX_T59n, DIFFOUT_T59n, DQSn20T, DQ8T, DQ4T, DQ1T) (io), L11 IO, (DIFFIO_RX_T49n, DIFFOUT_T49n, DQ17T, DQ7T, DQ4T, DQ1T) (io), L12 IO, (DIFFIO_TX_T54p, DIFFOUT_T54p, DQ18T, DQ7T, DQ4T, DQ1T) (io), L13 IO, (DIFFIO_TX_T54n, DIFFOUT_T54n, DQ18T, DQ7T, DQ4T, DQ1T) (io), M12 IO, (DIFFIO_RX_T49p, DIFFOUT_T49p, DQ17T, DQ7T, DQ4T, DQ1T) (io), N11 IO, (DIFFIO_TX_T50p, DIFFOUT_T50p, DQ17T, DQ7T, DQ4T, DQ1T) (io), N12 IO, (DIFFIO_RX_T51p, DIFFOUT_T51p, DQS17T, DQS7T/CQ7T, DQ4T, DQ1T/CQn1T) (io), N13 IO, (DIFFIO_RX_T51n, DIFFOUT_T51n, DQSn17T, DQSn7T/DQ7T, DQ4T, DQ1T) (io), P11 IO, (DIFFIO_TX_T50n, DIFFOUT_T50n, DQ17T, DQ7T, DQ4T, DQ1T) (io)
part J pins: A16 IO, (DIFFIO_RX_T61p, DIFFOUT_T61p, DQ21T, DQ9T, DQ5T) (io), A17 IO, (DIFFIO_RX_T61n, DIFFOUT_T61n, DQ21T, DQ9T, DQ5T) (io), A19 IO, (DIFFIO_TX_T64n, DIFFOUT_T64n, DQ22T, DQ9T, DQ5T) (io), A20 IO, (DIFFIO_TX_T66n, DIFFOUT_T66n, DQ22T, DQ9T, DQ5T) (io), B17 IO, (DIFFIO_TX_T62n, DIFFOUT_T62n, DQ21T, DQ9T, DQ5T) (io), B19 IO, (DIFFIO_TX_T64p, DIFFOUT_T64p, DQ22T, DQ9T, DQ5T) (io), B20 IO, (DIFFIO_TX_T66p, DIFFOUT_T66p, DQ22T, DQ9T, DQ5T) (io), C17 IO, (DIFFIO_TX_T62p, DIFFOUT_T62p, DQ21T, DQ9T, DQ5T) (io), C19 IO, (DIFFIO_RX_T65n, DIFFOUT_T65n, DQSn22T, DQ9T, DQSn5T/DQ5T) (io), D18 IO, (DIFFIO_RX_T63p, DIFFOUT_T63p, DQS21T, DQS9T/CQ9T, DQ5T) (io), D19 IO, (DIFFIO_RX_T65p, DIFFOUT_T65p, DQS22T, DQ9T/CQn9T, DQS5T/CQ5T) (io), D21 IO, (DIFFIO_RX_T77n, DIFFOUT_T77n, DQSn26T, DQ11T) (io), E17 IO, FPLL_TC_CLKOUT2, FPLL_TC_FBp, FPLL_TC_FB1, (DIFFIO_RX_T71p, DIFFOUT_T71p, DQS24T, DQ10T/CQn10T, DQ5T) (io), E18 IO, FPLL_TC_CLKOUT1, FPLL_TC_CLKOUTn, (DIFFIO_TX_T72n, DIFFOUT_T72n, DQ24T, DQ10T, DQ5T) (io), E19 IO, (DIFFIO_RX_T63n, DIFFOUT_T63n, DQSn21T, DQSn9T/DQ9T, DQ5T) (io), E20 IO, (DIFFIO_TX_T78n, DIFFOUT_T78n, DQ26T, DQ11T) (io), E21 IO, (DIFFIO_RX_T77p, DIFFOUT_T77p, DQS26T, DQ11T/CQn11T) (io), F17 IO, FPLL_TC_CLKOUT3, FPLL_TC_FBn, (DIFFIO_RX_T71n, DIFFOUT_T71n, DQSn24T, DQ10T, DQ5T) (io), F18 IO, FPLL_TC_CLKOUT0, FPLL_TC_CLKOUTp, FPLL_TC_FB0, (DIFFIO_TX_T72p, DIFFOUT_T72p, DQ24T, DQ10T, DQ5T) (io), F20 IO, (DIFFIO_TX_T78p, DIFFOUT_T78p, DQ26T, DQ11T) (io), F21 IO, (DIFFIO_RX_T75n, DIFFOUT_T75n, DQSn25T, DQSn11T/DQ11T) (io), G17 IO, (DIFFIO_TX_T70n, DIFFOUT_T70n, DQ24T, DQ10T, DQ5T) (io), G19 IO, CLK18n, (DIFFIO_RX_T69n, DIFFOUT_T69n, DQSn23T, DQSn10T/DQ10T, DQ5T) (io), G20 IO, (DIFFIO_TX_T76n, DIFFOUT_T76n, DQ26T, DQ11T) (io), G21 IO, (DIFFIO_RX_T75p, DIFFOUT_T75p, DQS25T, DQS11T/CQ11T) (io), H17 IO, (DIFFIO_TX_T70p, DIFFOUT_T70p, DQ24T, DQ10T, DQ5T) (io), H19 IO, CLK18p, (DIFFIO_RX_T69p, DIFFOUT_T69p, DQS23T, DQS10T/CQ10T, DQ5T/CQn5T) (io), H20 IO, (DIFFIO_TX_T76p, DIFFOUT_T76p, DQ26T, DQ11T) (io), J16 IO, (DIFFIO_TX_T68p, DIFFOUT_T68p, DQ23T, DQ10T, DQ5T) (io), J18 IO, CLK19n, (DIFFIO_RX_T67n, DIFFOUT_T67n, DQ23T, DQ10T, DQ5T) (io), J19 IO, CLK19p, (DIFFIO_RX_T67p, DIFFOUT_T67p, DQ23T, DQ10T, DQ5T) (io), J20 IO, (DIFFIO_TX_T74n, DIFFOUT_T74n, DQ25T, DQ11T) (io), J21 IO, (DIFFIO_RX_T73p, DIFFOUT_T73p, DQ25T, DQ11T) (io), J22 IO, (DIFFIO_RX_T73n, DIFFOUT_T73n, DQ25T, DQ11T) (io), K16 IO, (DIFFIO_TX_T68n, DIFFOUT_T68n, DQ23T, DQ10T, DQ5T) (io), K21 IO, (DIFFIO_TX_T74p, DIFFOUT_T74p, DQ25T, DQ11T) (io)
part K pins: A29 IO, CLK23n, (DIFFIO_RX_T145n, DIFFOUT_T145n) (io), A33 IO, CLK22n, (DIFFIO_RX_T147n, DIFFOUT_T147n) (io), B29 IO, CLK23p, (DIFFIO_RX_T145p, DIFFOUT_T145p) (io), B32 IO, CLK22p, (DIFFIO_RX_T147p, DIFFOUT_T147p) (io), B34 IO, FPLL_TL_CLKOUT3, FPLL_TL_FBn, (DIFFIO_RX_T149n, DIFFOUT_T149n) (io), C32 IO, FPLL_TL_CLKOUT0, FPLL_TL_CLKOUTp, FPLL_TL_FB0, (DIFFIO_TX_T150p, DIFFOUT_T150p) (io), C33 IO, FPLL_TL_CLKOUT1, FPLL_TL_CLKOUTn, (DIFFIO_TX_T150n, DIFFOUT_T150n) (io), C34 IO, FPLL_TL_CLKOUT2, FPLL_TL_FBp, FPLL_TL_FB1, (DIFFIO_RX_T149p, DIFFOUT_T149p) (io), D30 IO, CLK21n, (DIFFIO_RX_T151n, DIFFOUT_T151n) (io), D31 IO, CLK20n, (DIFFIO_RX_T153n, DIFFOUT_T153n) (io), E30 IO, CLK21p, (DIFFIO_RX_T151p, DIFFOUT_T151p) (io), E31 IO, CLK20p, (DIFFIO_RX_T153p, DIFFOUT_T153p) (io), F31 IO, RZQ_5, (DIFFIO_RX_T155n, DIFFOUT_T155n) (io), F32 IO, (DIFFIO_RX_T155p, DIFFOUT_T155p) (io)
part L pins: A25 IO, (DIFFIO_RX_T97n, DIFFOUT_T97n, DQ33T, DQ14T, DQ7T, DQ2T) (io), A26 IO, (DIFFIO_RX_T97p, DIFFOUT_T97p, DQ33T, DQ14T, DQ7T, DQ2T) (io), A28 IO, (DIFFIO_TX_T100n, DIFFOUT_T100n, DQ34T, DQ14T, DQ7T, DQ2T) (io), B25 IO, (DIFFIO_TX_T98n, DIFFOUT_T98n, DQ33T, DQ14T, DQ7T, DQ2T) (io), B26 IO, (DIFFIO_RX_T99p, DIFFOUT_T99p, DQS33T, DQS14T/CQ14T, DQ7T, DQ2T) (io), B28 IO, (DIFFIO_TX_T100p, DIFFOUT_T100p, DQ34T, DQ14T, DQ7T, DQ2T) (io), C25 IO, (DIFFIO_TX_T98p, DIFFOUT_T98p, DQ33T, DQ14T, DQ7T, DQ2T) (io), C27 IO, (DIFFIO_RX_T99n, DIFFOUT_T99n, DQSn33T, DQSn14T/DQ14T, DQ7T, DQ2T) (io), C28 IO, (DIFFIO_TX_T102p, DIFFOUT_T102p, DQ34T, DQ14T, DQ7T, DQ2T) (io), D25 IO, (DIFFIO_RX_T117n, DIFFOUT_T117n, DQSn39T, DQSn17T/DQ17T, DQ8T, DQ2T) (io), D27 IO, (DIFFIO_RX_T101n, DIFFOUT_T101n, DQSn34T, DQ14T, DQSn7T/DQ7T, DQ2T) (io), D28 IO, (DIFFIO_TX_T102n, DIFFOUT_T102n, DQ34T, DQ14T, DQ7T, DQ2T) (io), E25 IO, (DIFFIO_RX_T117p, DIFFOUT_T117p, DQS39T, DQS17T/CQ17T, DQ8T/CQn8T, DQ2T) (io), E26 IO, (DIFFIO_TX_T116n, DIFFOUT_T116n, DQ39T, DQ17T, DQ8T, DQ2T) (io), E27 IO, (DIFFIO_RX_T101p, DIFFOUT_T101p, DQS34T, DQ14T/CQn14T, DQS7T/CQ7T, DQ2T) (io), E28 IO, (DIFFIO_RX_T119n, DIFFOUT_T119n, DQSn40T, DQ17T, DQ8T, DQ2T) (io), F24 IO, (DIFFIO_RX_T115n, DIFFOUT_T115n, DQ39T, DQ17T, DQ8T, DQ2T) (io), F26 IO, (DIFFIO_TX_T116p, DIFFOUT_T116p, DQ39T, DQ17T, DQ8T, DQ2T) (io), F27 IO, (DIFFIO_RX_T119p, DIFFOUT_T119p, DQS40T, DQ17T/CQn17T, DQ8T, DQ2T) (io), G24 IO, (DIFFIO_RX_T115p, DIFFOUT_T115p, DQ39T, DQ17T, DQ8T, DQ2T) (io), G25 IO, (DIFFIO_TX_T110n, DIFFOUT_T110n, DQ37T, DQ16T, DQ8T, DQ2T) (io), G26 IO, (DIFFIO_RX_T111p, DIFFOUT_T111p, DQS37T, DQS16T/CQ16T, DQ8T, DQ2T/CQn2T) (io), G27 IO, (DIFFIO_RX_T111n, DIFFOUT_T111n, DQSn37T, DQSn16T/DQ16T, DQ8T, DQ2T) (io), G28 IO, (DIFFIO_TX_T118n, DIFFOUT_T118n, DQ40T, DQ17T, DQ8T, DQ2T) (io), H25 IO, (DIFFIO_TX_T110p, DIFFOUT_T110p, DQ37T, DQ16T, DQ8T, DQ2T) (io), H28 IO, (DIFFIO_TX_T118p, DIFFOUT_T118p, DQ40T, DQ17T, DQ8T, DQ2T) (io), H29 IO, (DIFFIO_TX_T120n, DIFFOUT_T120n, DQ40T, DQ17T, DQ8T, DQ2T) (io), J24 IO, (DIFFIO_TX_T104n, DIFFOUT_T104n, DQ35T, DQ15T, DQ7T, DQ2T) (io), J25 IO, (DIFFIO_RX_T105p, DIFFOUT_T105p, DQS35T, DQS15T/CQ15T, DQ7T/CQn7T, DQ2T) (io), J26 IO, (DIFFIO_RX_T105n, DIFFOUT_T105n, DQSn35T, DQSn15T/DQ15T, DQ7T, DQ2T) (io), J27 IO, (DIFFIO_RX_T109n, DIFFOUT_T109n, DQ37T, DQ16T, DQ8T, DQ2T) (io), J28 IO, (DIFFIO_RX_T113n, DIFFOUT_T113n, DQSn38T, DQ16T, DQSn8T/DQ8T, DQ2T) (io), J29 IO, (DIFFIO_TX_T120p, DIFFOUT_T120p, DQ40T, DQ17T, DQ8T, DQ2T) (io), K24 IO, (DIFFIO_RX_T103n, DIFFOUT_T103n, DQ35T, DQ15T, DQ7T, DQ2T) (io), K25 IO, (DIFFIO_TX_T104p, DIFFOUT_T104p, DQ35T, DQ15T, DQ7T, DQ2T) (io), K27 IO, (DIFFIO_RX_T109p, DIFFOUT_T109p, DQ37T, DQ16T, DQ8T, DQ2T) (io), K28 IO, (DIFFIO_RX_T113p, DIFFOUT_T113p, DQS38T, DQ16T/CQn16T, DQS8T/CQ8T, DQ2T) (io), L24 IO, (DIFFIO_RX_T103p, DIFFOUT_T103p, DQ35T, DQ15T, DQ7T, DQ2T) (io), L25 IO, (DIFFIO_TX_T106p, DIFFOUT_T106p, DQ36T, DQ15T, DQ7T, DQ2T) (io), L26 IO, (DIFFIO_TX_T106n, DIFFOUT_T106n, DQ36T, DQ15T, DQ7T, DQ2T) (io), L27 IO, (DIFFIO_TX_T112p, DIFFOUT_T112p, DQ38T, DQ16T, DQ8T, DQ2T) (io), L28 IO, (DIFFIO_TX_T114p, DIFFOUT_T114p, DQ38T, DQ16T, DQ8T, DQ2T) (io), L29 IO, (DIFFIO_TX_T114n, DIFFOUT_T114n, DQ38T, DQ16T, DQ8T, DQ2T) (io), M26 IO, (DIFFIO_TX_T108n, DIFFOUT_T108n, DQ36T, DQ15T, DQ7T, DQ2T) (io), M27 IO, (DIFFIO_TX_T112n, DIFFOUT_T112n, DQ38T, DQ16T, DQ8T, DQ2T) (io), N26 IO, (DIFFIO_TX_T108p, DIFFOUT_T108p, DQ36T, DQ15T, DQ7T, DQ2T) (io), P25 IO, (DIFFIO_RX_T107p, DIFFOUT_T107p, DQS36T, DQ15T/CQn15T, DQ7T, DQS2T/CQ2T) (io), P26 IO, (DIFFIO_RX_T107n, DIFFOUT_T107n, DQSn36T, DQ15T, DQ7T, DQSn2T/DQ2T) (io)
part M pins: A21 IO, CLK17p, (DIFFIO_RX_T85p, DIFFOUT_T85p, DQ29T, DQ12T, DQ6T) (io), A22 IO, CLK17n, (DIFFIO_RX_T85n, DIFFOUT_T85n, DQ29T, DQ12T, DQ6T) (io), A23 IO, CLK16n, (DIFFIO_RX_T87n, DIFFOUT_T87n, DQSn29T, DQSn12T/DQ12T, DQ6T) (io), B22 IO, (DIFFIO_TX_T86n, DIFFOUT_T86n, DQ29T, DQ12T, DQ6T) (io), B23 IO, CLK16p, (DIFFIO_RX_T87p, DIFFOUT_T87p, DQS29T, DQS12T/CQ12T, DQ6T) (io), C21 IO, (DIFFIO_TX_T86p, DIFFOUT_T86p, DQ29T, DQ12T, DQ6T) (io), C22 IO, (DIFFIO_RX_T89n, DIFFOUT_T89n, DQSn30T, DQ12T, DQSn6T/DQ6T) (io), C23 IO, (DIFFIO_TX_T90p, DIFFOUT_T90p, DQ30T, DQ12T, DQ6T) (io), D22 IO, (DIFFIO_RX_T89p, DIFFOUT_T89p, DQS30T, DQ12T/CQn12T, DQS6T/CQ6T) (io), D24 IO, (DIFFIO_TX_T90n, DIFFOUT_T90n, DQ30T, DQ12T, DQ6T) (io), E22 IO, (DIFFIO_RX_T95n, DIFFOUT_T95n, DQSn32T, DQ13T, DQ6T) (io), E23 IO, (DIFFIO_TX_T88n, DIFFOUT_T88n, DQ30T, DQ12T, DQ6T) (io), E24 IO, (DIFFIO_TX_T88p, DIFFOUT_T88p, DQ30T, DQ12T, DQ6T) (io), F23 IO, (DIFFIO_RX_T95p, DIFFOUT_T95p, DQS32T, DQ13T/CQn13T, DQ6T) (io), G22 IO, (DIFFIO_TX_T94n, DIFFOUT_T94n, DQ32T, DQ13T, DQ6T) (io), G23 IO, (DIFFIO_TX_T96n, DIFFOUT_T96n, DQ32T, DQ13T, DQ6T) (io), H22 IO, (DIFFIO_TX_T94p, DIFFOUT_T94p, DQ32T, DQ13T, DQ6T) (io), H23 IO, (DIFFIO_TX_T96p, DIFFOUT_T96p, DQ32T, DQ13T, DQ6T) (io), K22 IO, (DIFFIO_RX_T93n, DIFFOUT_T93n, DQSn31T, DQSn13T/DQ13T, DQ6T) (io), L22 IO, (DIFFIO_TX_T92n, DIFFOUT_T92n, DQ31T, DQ13T, DQ6T) (io), L23 IO, (DIFFIO_RX_T93p, DIFFOUT_T93p, DQS31T, DQS13T/CQ13T, DQ6T/CQn6T) (io), M22 IO, (DIFFIO_TX_T92p, DIFFOUT_T92p, DQ31T, DQ13T, DQ6T) (io), M23 IO, (DIFFIO_RX_T91n, DIFFOUT_T91n, DQ31T, DQ13T, DQ6T) (io), M24 IO, (DIFFIO_RX_T91p, DIFFOUT_T91p, DQ31T, DQ13T, DQ6T) (io)
part N pins: AA33 GXB_RX_L5p, GXB_REFCLK_L5p (in), AA34 GXB_RX_L5n, GXB_REFCLK_L5n (in), AB31 GXB_TX_L4p (out), AB32 GXB_TX_L4n (out), AC33 GXB_RX_L4p, GXB_REFCLK_L4p (in), AC34 GXB_RX_L4n, GXB_REFCLK_L4n (in), AD31 GXB_TX_L3p (out), AD32 GXB_TX_L3n (out), AE33 GXB_RX_L3p, GXB_REFCLK_L3p (in), AE34 GXB_RX_L3n, GXB_REFCLK_L3n (in), AF31 GXB_TX_L2p (out), AF32 GXB_TX_L2n (out), AG33 GXB_RX_L2p, GXB_REFCLK_L2p (in), AG34 GXB_RX_L2n, GXB_REFCLK_L2n (in), AH31 GXB_TX_L1p (out), AH32 GXB_TX_L1n (out), AJ33 GXB_RX_L1p, GXB_REFCLK_L1p (in), AJ34 GXB_RX_L1n, GXB_REFCLK_L1n (in), AK31 GXB_TX_L0p (out), AK32 GXB_TX_L0n (out), AL33 GXB_RX_L0p, GXB_REFCLK_L0p (in), AL34 GXB_RX_L0n, GXB_REFCLK_L0n (in), U28 REFCLK1Lp (in), U29 REFCLK1Ln (in), W29 REFCLK0Lp (in), W30 REFCLK0Ln (in), Y31 GXB_TX_L5p (out), Y32 GXB_TX_L5n (out)
part O pins: H31 GXB_TX_L11p (out), H32 GXB_TX_L11n (out), J33 GXB_RX_L11p, GXB_REFCLK_L11p (in), J34 GXB_RX_L11n, GXB_REFCLK_L11n (in), K31 GXB_TX_L10p (out), K32 GXB_TX_L10n (out), L33 GXB_RX_L10p, GXB_REFCLK_L10p (in), L34 GXB_RX_L10n, GXB_REFCLK_L10n (in), M31 GXB_TX_L9p (out), M32 GXB_TX_L9n (out), N28 REFCLK3Lp (in), N29 REFCLK3Ln (in), N33 GXB_RX_L9p, GXB_REFCLK_L9p (in), N34 GXB_RX_L9n, GXB_REFCLK_L9n (in), P31 GXB_TX_L8p (out), P32 GXB_TX_L8n (out), R29 REFCLK2Lp (in), R30 REFCLK2Ln (in), R33 GXB_RX_L8p, GXB_REFCLK_L8p (in), R34 GXB_RX_L8n, GXB_REFCLK_L8n (in), T31 GXB_TX_L7p (out), T32 GXB_TX_L7n (out), U33 GXB_RX_L7p, GXB_REFCLK_L7p (in), U34 GXB_RX_L7n, GXB_REFCLK_L7n (in), V31 GXB_TX_L6p (out), V32 GXB_TX_L6n (out), W33 GXB_RX_L6p, GXB_REFCLK_L6p (in), W34 GXB_RX_L6n, GXB_REFCLK_L6n (in)
part P pins: AA1 GXB_RX_R5n, GXB_REFCLK_R5n (in), AA2 GXB_RX_R5p, GXB_REFCLK_R5p (in), AB3 GXB_TX_R4n (out), AB4 GXB_TX_R4p (out), AC1 GXB_RX_R4n, GXB_REFCLK_R4n (in), AC2 GXB_RX_R4p, GXB_REFCLK_R4p (in), AD3 GXB_TX_R3n (out), AD4 GXB_TX_R3p (out), AE1 GXB_RX_R3n, GXB_REFCLK_R3n (in), AE2 GXB_RX_R3p, GXB_REFCLK_R3p (in), AF3 GXB_TX_R2n (out), AF4 GXB_TX_R2p (out), AG1 GXB_RX_R2n, GXB_REFCLK_R2n (in), AG2 GXB_RX_R2p, GXB_REFCLK_R2p (in), AH3 GXB_TX_R1n (out), AH4 GXB_TX_R1p (out), AJ1 GXB_RX_R1n, GXB_REFCLK_R1n (in), AJ2 GXB_RX_R1p, GXB_REFCLK_R1p (in), AK3 GXB_TX_R0n (out), AK4 GXB_TX_R0p (out), AL1 GXB_RX_R0n, GXB_REFCLK_R0n (in), AL2 GXB_RX_R0p, GXB_REFCLK_R0p (in), U6 REFCLK1Rn (in), U7 REFCLK1Rp (in), W5 REFCLK0Rn (in), W6 REFCLK0Rp (in), Y3 GXB_TX_R5n (out), Y4 GXB_TX_R5p (out)
part Q pins: H3 GXB_TX_R11n (out), H4 GXB_TX_R11p (out), J1 GXB_RX_R11n, GXB_REFCLK_R11n (in), J2 GXB_RX_R11p, GXB_REFCLK_R11p (in), K3 GXB_TX_R10n (out), K4 GXB_TX_R10p (out), L1 GXB_RX_R10n, GXB_REFCLK_R10n (in), L2 GXB_RX_R10p, GXB_REFCLK_R10p (in), M3 GXB_TX_R9n (out), M4 GXB_TX_R9p (out), N1 GXB_RX_R9n, GXB_REFCLK_R9n (in), N2 GXB_RX_R9p, GXB_REFCLK_R9p (in), N6 REFCLK3Rn (in), N7 REFCLK3Rp (in), P3 GXB_TX_R8n (out), P4 GXB_TX_R8p (out), R1 GXB_RX_R8n, GXB_REFCLK_R8n (in), R2 GXB_RX_R8p, GXB_REFCLK_R8p (in), R5 REFCLK2Rn (in), R6 REFCLK2Rp (in), T3 GXB_TX_R7n (out), T4 GXB_TX_R7p (out), U1 GXB_RX_R7n, GXB_REFCLK_R7n (in), U2 GXB_RX_R7p, GXB_REFCLK_R7p (in), V3 GXB_TX_R6n (out), V4 GXB_TX_R6p (out), W1 GXB_RX_R6n, GXB_REFCLK_R6n (in), W2 GXB_RX_R6p, GXB_REFCLK_R6p (in)
part R pins: AA5 MSEL1 (in), AA6 MSEL0 (in), AA29 AS_DATA1 (io), AB28 DCLK (io), AC27 nCSO (out), AC28 AS_DATA2 (io), AE5 CONF_DONE (io), AE30 nCONFIG (in), AF27 AS_DATA3 (io), AF28 AS_DATA0, ASDO (io), AG5 MSEL4 (in), AJ5 MSEL3 (in), AJ30 TMS (in), AK29 TDO (out), AL5 MSEL2 (in), AL29 TDI (in), AM4 nSTATUS (io), AN3 nCE (in), AN31 TCK (in), AP3 nIO_PULLUP (in), L5 TEMPDIODEp (in), M6 TEMPDIODEn (in), Y27 ~{TRST} (in)
part S pins: A3 VCCIO7A (power), A6 VCCIO7B (power), A9 VCCIO7B (power), A12 VCCIO7C (power), A15 VCCIO7C (power), A18 VCCIO7D (power), A24 VCCIO8D (power), A27 VCCIO8C (power), A30 VCCIO8A (power), AM9 VCCIO4B (power), AM15 VCCIO4D (power), AM27 VCCIO3A (power), AP5 VCCIO4A (power), AP8 VCCIO4B (power), AP17 VCCIO3D (power), AP23 VCCIO3B (power), AP26 VCCIO3B (power), AP29 VCCIO3A (power), C20 VCCIO7D (power), C26 VCCIO8C (power), L15 VCC (power), L17 VCC (power), L19 VCC (power), L21 VCC (power), M14 VCC (power), M15 VCC (power), M16 VCC (power), M18 VCC (power), M19 VCC (power), M20 VCC (power), N14 VCC (power), N16 VCC (power), N17 VCC (power), N18 VCC (power), N19 VCC (power), N21 VCC (power), P15 VCC (power), P16 VCC (power), P17 VCC (power), P19 VCC (power), P20 VCC (power), P21 VCC (power), R14 VCC (power), R15 VCC (power), R16 VCC (power), R18 VCC (power), R19 VCC (power), R20 VCC (power), T14 VCC (power), T16 VCC (power), T18 VCC (power), T19 VCC (power), T20 VCC (power), T21 VCC (power), U14 VCC (power), U15 VCC (power), U16 VCC (power), U18 VCC (power), U19 VCC (power), U20 VCC (power), U21 VCC (power), V15 VCC (power), V17 VCC (power), V19 VCC (power), V21 VCC (power)
part T pins: AA10 VCCPT (power), AA17 VCCPT (power), AB16 VREFB4DN0 (power), AB25 VCCPT (power), AC18 VCCA_FPLL (power), AD10 VREFB4BN0 (power), AD18 VCCD_FPLL (power), AD19 VREFB3DN0 (power), AD25 VREFB3BN0 (power), AD27 VREFB3AN0 (power), AE7 VREFB4AN0 (power), AG28 VCC_AUX (power), AH6 VCC_AUX (power), AH7 VCCBAT (power), AH19 VCC_AUX (power), AH28 VCCPGM (power), AH29 VCCA_FPLL (power), AJ6 VCCA_FPLL (power), AJ29 VCCD_FPLL (power), AK6 VCCD_FPLL (power), AK7 VCCPGM (power), AL20 VCCPD3CD (power), AM8 VCCPD4 (power), AM12 VCCPD4 (power), AM24 VCCPD3AB (power), AM29 VCCPD3AB (power), C5 VREFB7AN0 (power), C8 VCCPD7 (power), C14 VCCPD7 (power), C18 VCCPD7 (power), C24 VCCPD8 (power), C29 VREFB8AN0 (power), C30 VCCPD8 (power), F6 VCCD_FPLL (power), F29 VCCD_FPLL (power), G6 VCCA_FPLL (power), G18 VCC_AUX (power), G29 VCCA_FPLL (power), H7 VCC_AUX (power), H26 VREFB8CN0 (power), J11 VREFB7CN0 (power), J17 VREFB7DN0 (power), J23 VREFB8DN0 (power), J30 VCC_AUX (power), K10 VREFB7BN0 (power), K17 VCCA_FPLL (power), K18 VCCD_FPLL (power), K19 VCCPT (power), M11 VCCPT (power), N25 VCCPT (power), R8 VCCD_FPLL (power), R27 VCCD_FPLL (power), T8 VCCA_FPLL (power), T27 VCCA_FPLL (power), V8 VCCD_FPLL (power), V27 VCCD_FPLL (power), W8 VCCA_FPLL (power), W27 VCCA_FPLL (power)
part U pins: N5 VCCA_GXBR1 (power), N30 VCCA_GXBL1 (power), P5 VCCH_GXBR1 (power), P7 VCCT_GXBR1 (power), P12 VCCHSSI_R (power), P22 VCCHIP_L (power), P24 VCCHSSI_L (power), P28 VCCT_GXBL1 (power), P30 VCCH_GXBL1 (power), R7 VCCT_GXBR1 (power), R11 VCCHSSI_R (power), R22 VCCHIP_L (power), R23 VCCHSSI_L (power), R28 VCCT_GXBL1 (power), T6 VCCR_GXBR1 (power), T12 VCCHSSI_R (power), T22 VCCHIP_L (power), T24 VCCHSSI_L (power), T29 VCCR_GXBL1 (power), U5 VCCA_GXBR0 (power), U30 VCCA_GXBL0 (power), V5 VCCH_GXBR0 (power), V7 VCCT_GXBR0 (power), V28 VCCT_GXBL0 (power), V30 VCCH_GXBL0 (power), W7 VCCT_GXBR0 (power), W28 VCCT_GXBL0 (power), Y6 VCCR_GXBR0 (power), Y29 VCCR_GXBL0 (power)
part V pins: B3 GND (power), B6 GND (power), B9 GND (power), B12 GND (power), B15 GND (power), B18 GND (power), B21 GND (power), B24 GND (power), B27 GND (power), B30 GND (power), B33 GND (power), C1 GND (power), D2 GND (power), D5 GND (power), D8 GND (power), D11 GND (power), D14 GND (power), D17 GND (power), D20 GND (power), D23 GND (power), D26 GND (power), D29 GND (power), D32 GND (power), E33 GND (power), F1 GND (power), F2 GND (power), F7 GND (power), F10 GND (power), F13 GND (power), F16 GND (power), F19 GND (power), F22 GND (power), F25 GND (power), F28 GND (power), F33 GND (power), F34 GND (power), G2 GND (power), G3 GND (power), G4 GND (power), G30 GND (power), G31 GND (power), G32 GND (power), G33 GND (power), H1 GND (power), H2 GND (power), H5 GND (power), H6 GND (power), H9 GND (power), H12 GND (power), H15 GND (power), H18 GND (power), H21 GND (power), H24 GND (power), H27 GND (power), H30 GND (power), H33 GND (power), H34 GND (power), J3 GND (power), J4 GND (power), J5 GND (power), J31 GND (power), J32 GND (power), K1 GND (power), K2 GND (power), K5 GND (power), K8 GND (power), K11 GND (power), K23 GND (power), K26 GND (power), K29 GND (power), K30 GND (power), K33 GND (power), K34 GND (power), L3 GND (power), L4 GND (power), L14 GND (power), L16 GND (power), L18 GND (power), L20 GND (power), L30 GND (power), L31 GND (power), L32 GND (power), M1 GND (power), M2 GND (power), M5 GND (power), M7 GND (power), M10 GND (power), M13 GND (power), M17 GND (power), M21 GND (power), M25 GND (power), M28 GND (power), M29 GND (power), M30 GND (power), M33 GND (power), M34 GND (power)
part W pins: AA3 GND (power), AA4 GND (power), AA7 GND (power), AA11 GND (power), AA16 GND (power), AA19 GND (power), AA23 GND (power), AA26 GND (power), AA31 GND (power), AA32 GND (power), AB1 GND (power), AB2 GND (power), AB5 GND (power), AB17 GND (power), AB30 GND (power), AB33 GND (power), AB34 GND (power), AC3 GND (power), AC4 GND (power), N3 GND (power), N4 GND (power), N8 GND (power), N15 GND (power), N20 GND (power), N22 GND (power), N27 GND (power), N31 GND (power), N32 GND (power), P1 GND (power), P2 GND (power), P6 GND (power), P8 GND (power), P9 GND (power), P13 GND (power), P14 GND (power), P18 GND (power), P23 GND (power), P27 GND (power), P29 GND (power), P33 GND (power), P34 GND (power), R3 GND (power), R4 GND (power), R12 GND (power), R13 GND (power), R17 GND (power), R21 GND (power), R25 GND (power), R31 GND (power), R32 GND (power), T1 GND (power), T2 GND (power), T5 GND (power), T7 GND (power), T11 GND (power), T13 GND (power), T15 GND (power), T26 GND (power), T28 GND (power), T30 GND (power), T33 GND (power), T34 GND (power), U3 GND (power), U4 GND (power), U8 GND (power), U17 GND (power), U23 GND (power), U27 GND (power), U31 GND (power), U32 GND (power), V1 GND (power), V2 GND (power), V6 GND (power), V9 GND (power), V12 GND (power), V14 GND (power), V16 GND (power), V18 GND (power), V20 GND (power), V26 GND (power), V29 GND (power), V33 GND (power), V34 GND (power), W3 GND (power), W4 GND (power), W23 GND (power), W31 GND (power), W32 GND (power), Y1 GND (power), Y2 GND (power), Y5 GND (power), Y7 GND (power), Y8 GND (power), Y13 GND (power), Y15 GND (power), Y20 GND (power), Y28 GND (power), Y30 GND (power), Y33 GND (power), Y34 GND (power)
part X pins: AC5 GND (power), AC7 GND (power), AC10 GND (power), AC13 GND (power), AC16 GND (power), AC19 GND (power), AC22 GND (power), AC25 GND (power), AC31 GND (power), AC32 GND (power), AD1 GND (power), AD2 GND (power), AD5 GND (power), AD30 GND (power), AD33 GND (power), AD34 GND (power), AE3 GND (power), AE4 GND (power), AE6 GND (power), AE9 GND (power), AE12 GND (power), AE15 GND (power), AE18 GND (power), AE21 GND (power), AE24 GND (power), AE27 GND (power), AE31 GND (power), AE32 GND (power), AF1 GND (power), AF2 GND (power), AF5 GND (power), AF30 GND (power), AF33 GND (power), AF34 GND (power), AG3 GND (power), AG4 GND (power), AG8 GND (power), AG11 GND (power), AG14 GND (power), AG17 GND (power), AG20 GND (power), AG23 GND (power), AG26 GND (power), AG29 GND (power), AG31 GND (power), AG32 GND (power), AH1 GND (power), AH2 GND (power), AH5 GND (power), AH30 GND (power), AH33 GND (power), AH34 GND (power), AJ3 GND (power), AJ4 GND (power), AJ7 GND (power), AJ10 GND (power), AJ13 GND (power), AJ16 GND (power), AJ19 GND (power), AJ22 GND (power), AJ25 GND (power), AJ28 GND (power), AJ31 GND (power), AJ32 GND (power), AK1 GND (power), AK2 GND (power), AK5 GND (power), AK30 GND (power), AK33 GND (power), AK34 GND (power), AL3 GND (power), AL4 GND (power), AL6 GND (power), AL9 GND (power), AL12 GND (power), AL15 GND (power), AL18 GND (power), AL21 GND (power), AL24 GND (power), AL27 GND (power), AL31 GND (power), AL32 GND (power), AM1 GND (power), AM2 GND (power), AM3 GND (power), AM32 GND (power), AM33 GND (power), AM34 GND (power), AN5 GND (power), AN8 GND (power), AN11 GND (power), AN14 GND (power), AN17 GND (power), AN20 GND (power), AN23 GND (power), AN26 GND (power), AN29 GND (power), AN32 GND (power)
part Y pins: A5 NC, A7 NC, A8 NC, A10 NC, A11 NC, A31 NC, A32 NC, AA12 NC, AA13 NC, AA14 NC, AA15 NC, AA20 NC, AA21 NC, AA22 NC, AB12 NC, AB13 NC, AB14 NC, AB15 NC, AB20 NC, AB21 NC, AB22 NC, AC12 NC, AC14 NC, AC15 NC, AC20 NC, AC21 NC, AC23 NC, AD12 NC, AD13 NC, AD14 NC, AD15 NC, AD20 NC, AD21 NC, AD22 NC, AD23 NC, AE13 NC, AE14 NC, AE20 NC, AE22 NC, AE23 NC, AF11 NC, AF12 NC, AF13 NC, AF14 NC, AF15 NC, AF20 NC, AF21 NC, AF22 NC, AF23 NC, AG12 NC, AG13 NC, AG21 NC, AG22 NC, AH12 NC, AH13 NC, AH14 NC, AH15 NC, AH20 NC, AH21 NC, AH22 NC, AH23 NC, AJ12 NC, AJ14 NC, AJ20 NC, AJ21 NC, AK12 NC, AK13 NC, AK14 NC, AK20 NC, AK21 NC, AK22 NC, AL13 NC, AL14 NC, AL22 NC, AM13 NC, AM14 NC, AM19 NC, AM20 NC, AM21 NC, AM22 NC, AN12 NC, AN13 NC, AN19 NC, AN21 NC, AN22 NC, AP11 NC, AP12 NC, AP13 NC, AP14 NC, AP19 NC, AP20 NC, AP21 NC, AP22 NC, B1 NC, B5 NC, B7 NC, B8 NC, B10 NC, B11 NC, B31 NC, C2 NC, C3 NC, C4 NC, C6 NC, C7 NC, C10 NC, C11 NC, C31 NC, D3 NC, D4 NC, D33 NC, D34 NC, E29 NC, E32 NC, E34 NC, F30 NC, H8 NC, J6 NC, J7 NC, J8 NC, K6 NC, K7 NC, L6 NC, L7 NC, L8 NC, M8 NC, M9 NC, N9 NC, U12 NC, U13 NC, U22 NC, V13 NC, V22 NC, W12 NC, W13 NC, W14 NC, W20 NC, W21 NC, W22 NC, Y12 NC, Y14 NC, Y21 NC, Y22 NC, Y23 NC
part Z pins: AE17 DNU, AL30 DNU, AN1 RREF_BR, AN2 DNU, AN33 DNU, AN34 RREF_BL, AP2 DNU, AP33 DNU, G1 RREF_TR, G5 DNU, G34 RREF_TL, K20 DNU, T17 DNU
part A text: BANK 3A
part B text: BANK 3B
part C text: BANK 3D
part D text: BANK 4A
part E text: BANK 4B
part F text: BANK 4D
part G text: BANK 7A
part H text: BANK 7B
part I text: BANK 7C
part J text: BANK 7D
part K text: BANK 8A
part L text: BANK 8C
part M text: BANK 8D

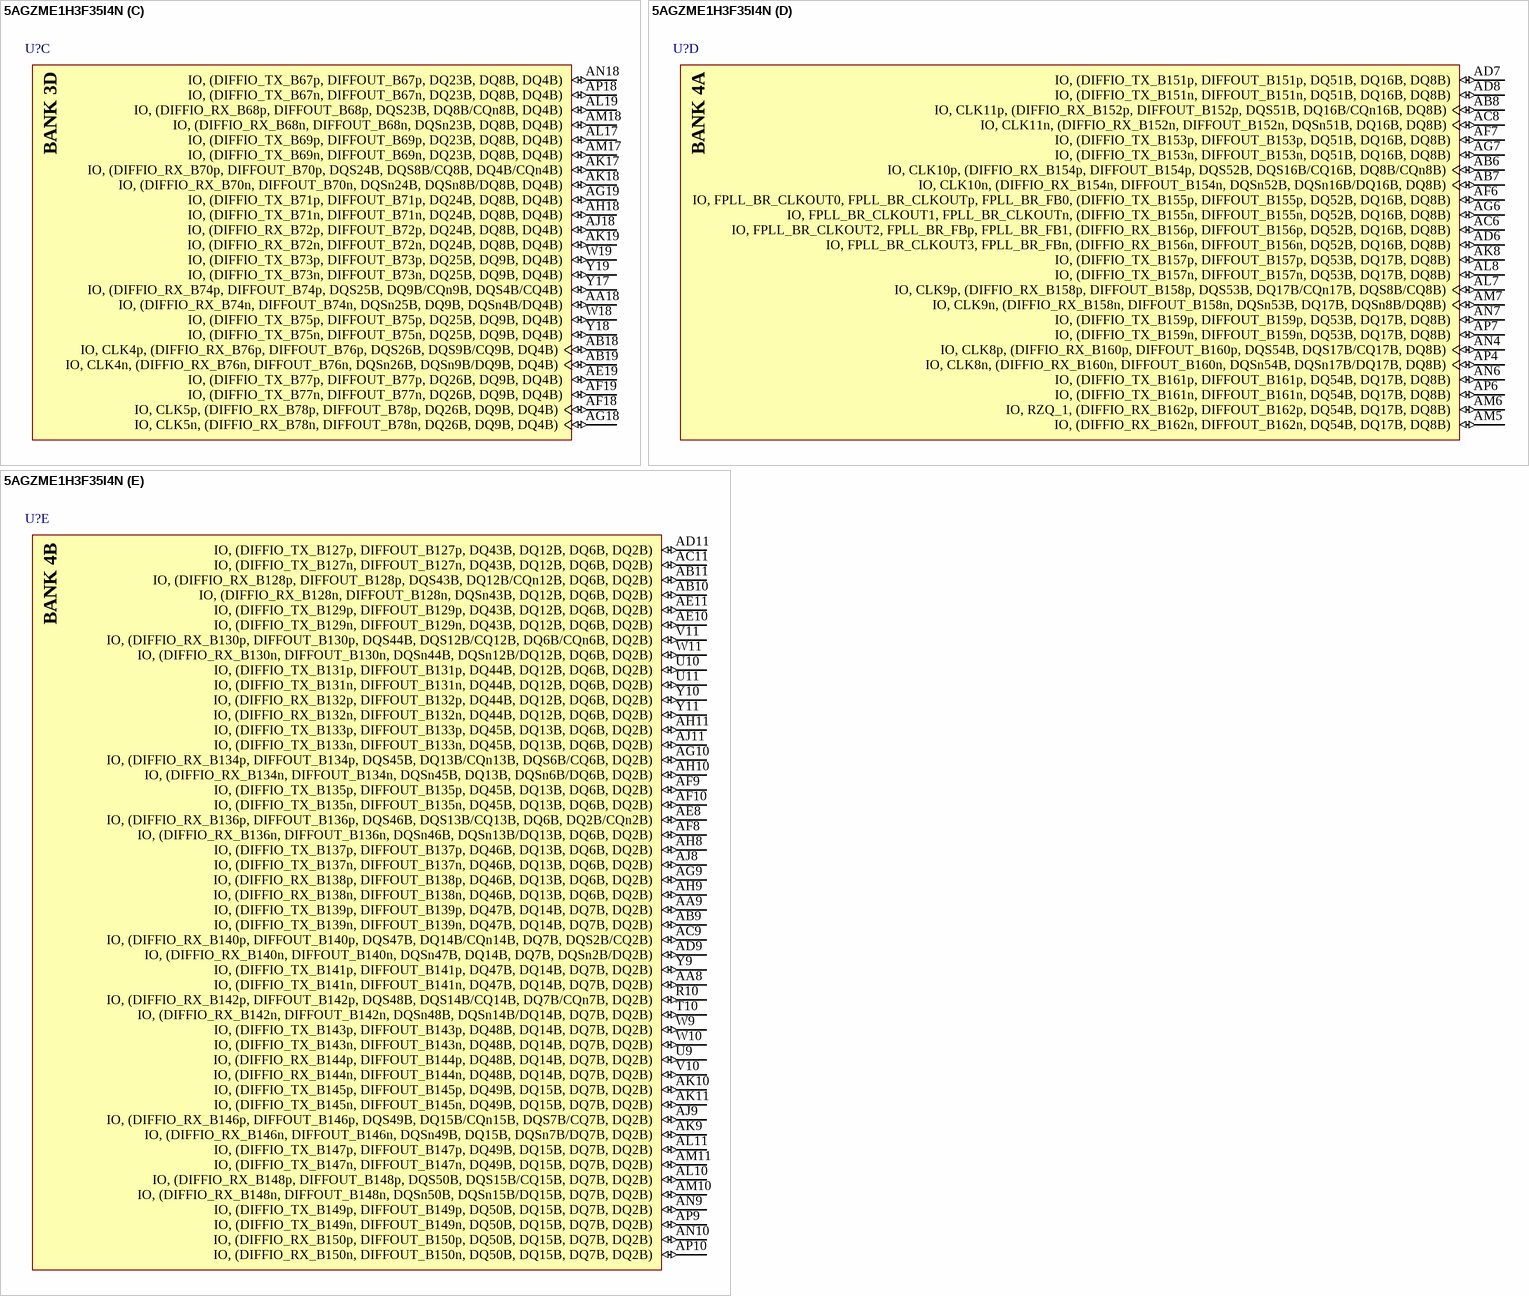
[diagram p33: symbol 5AGZME1H3F35I4N]

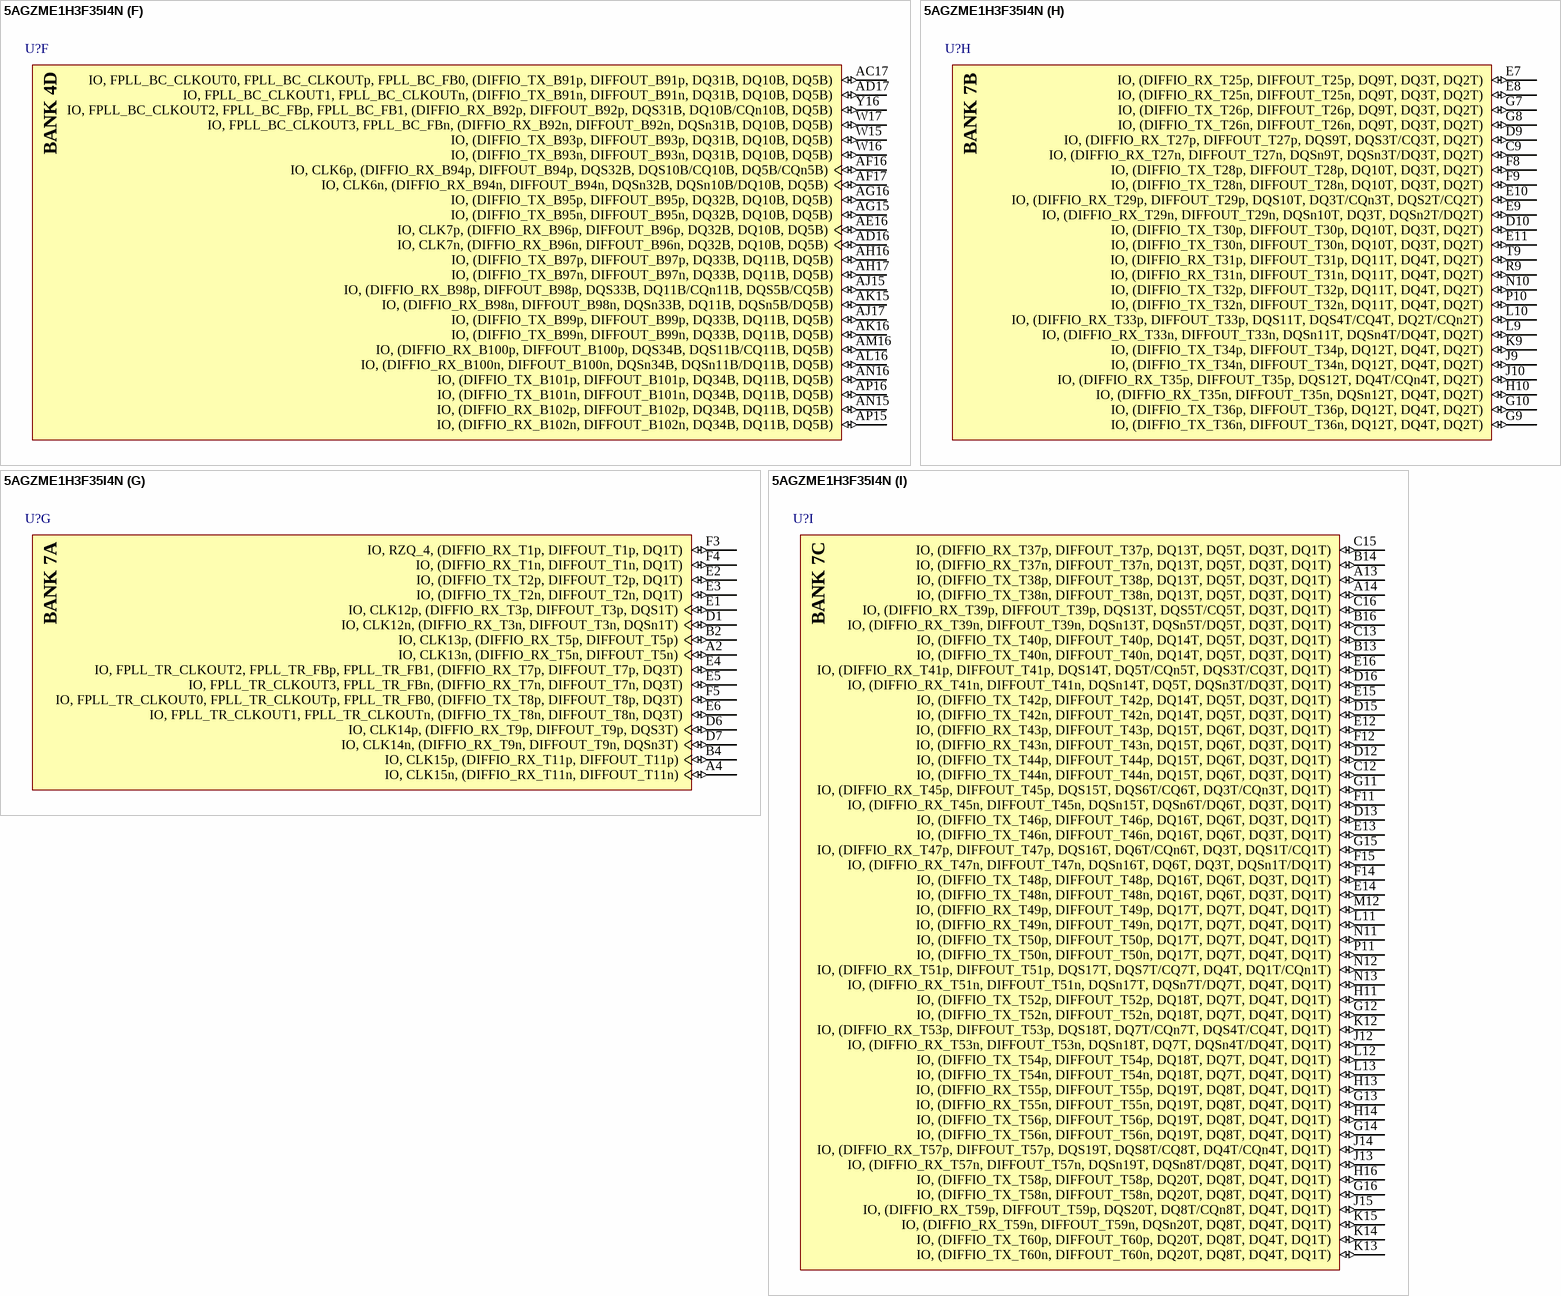
[diagram p34: symbol 5AGZME1H3F35I4N]

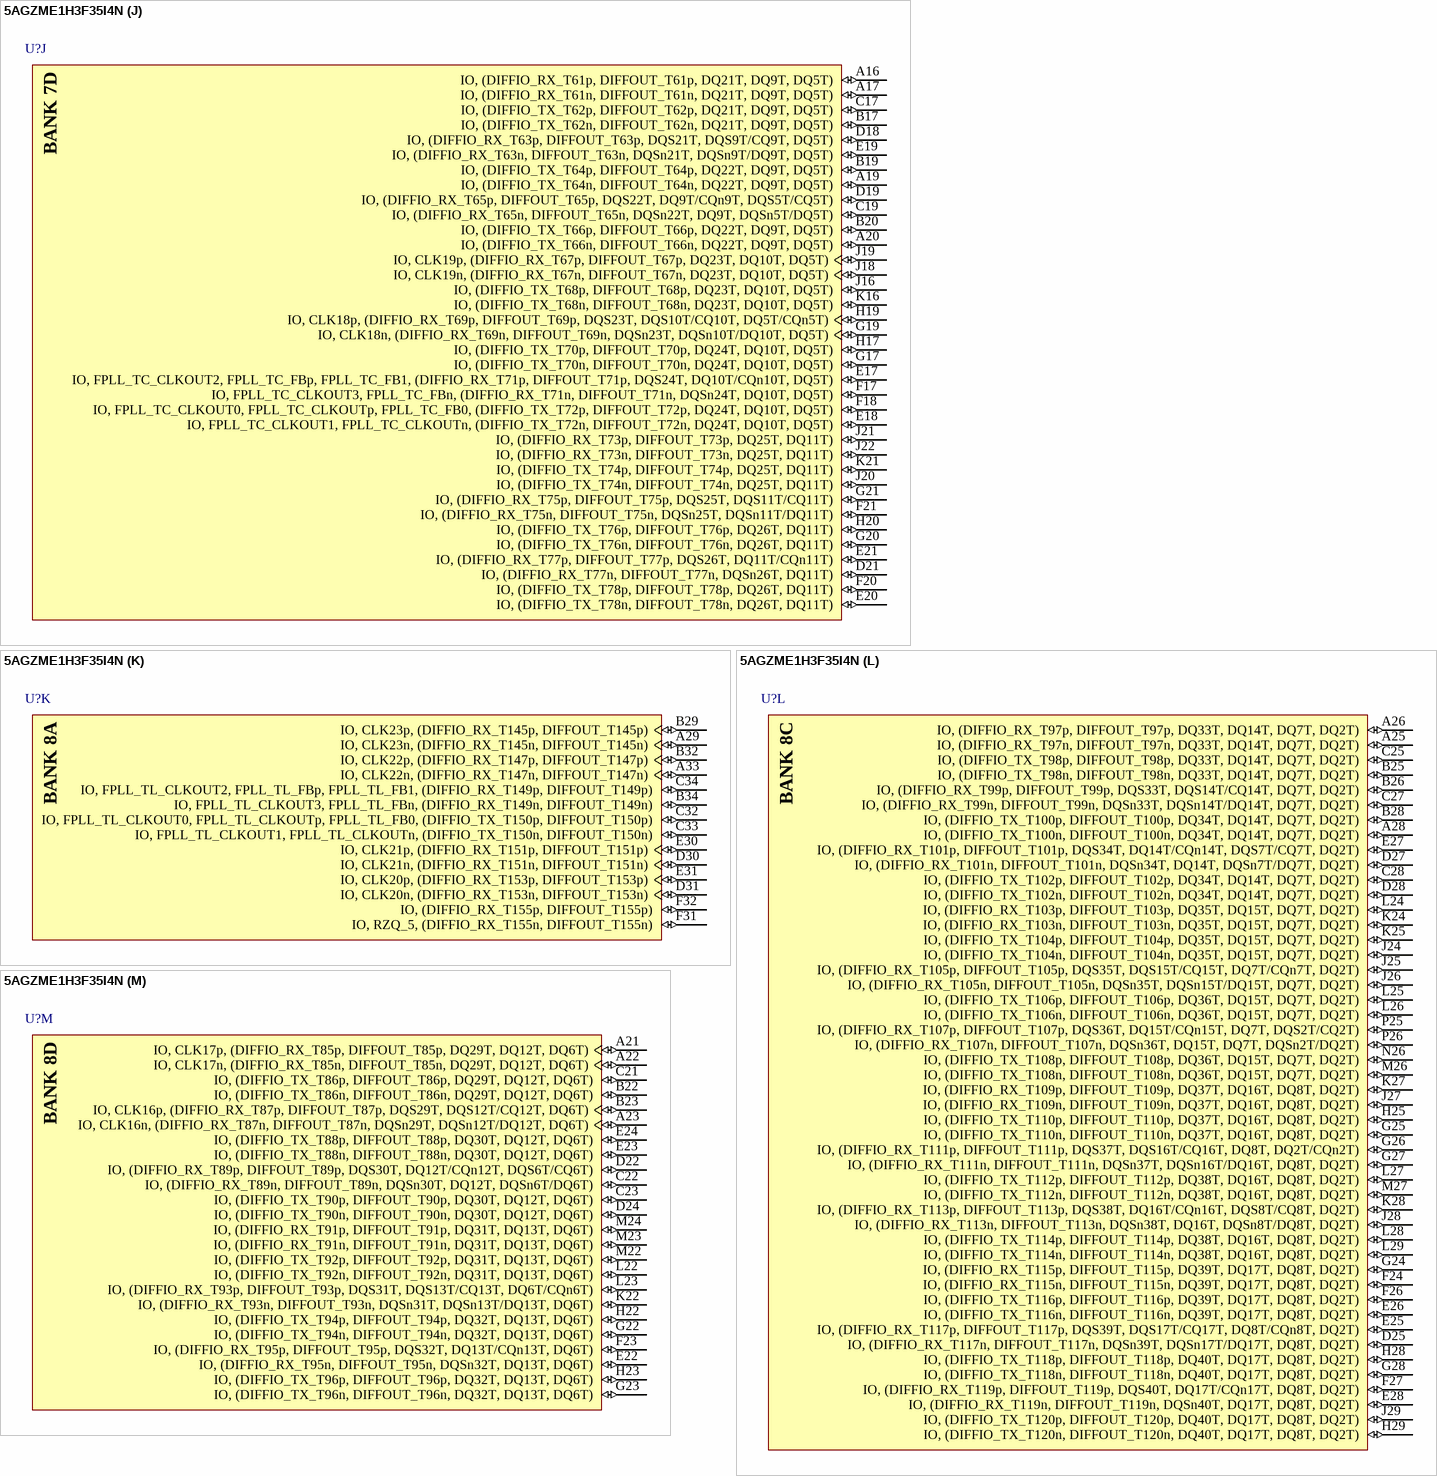
[diagram p35: symbol 5AGZME1H3F35I4N]

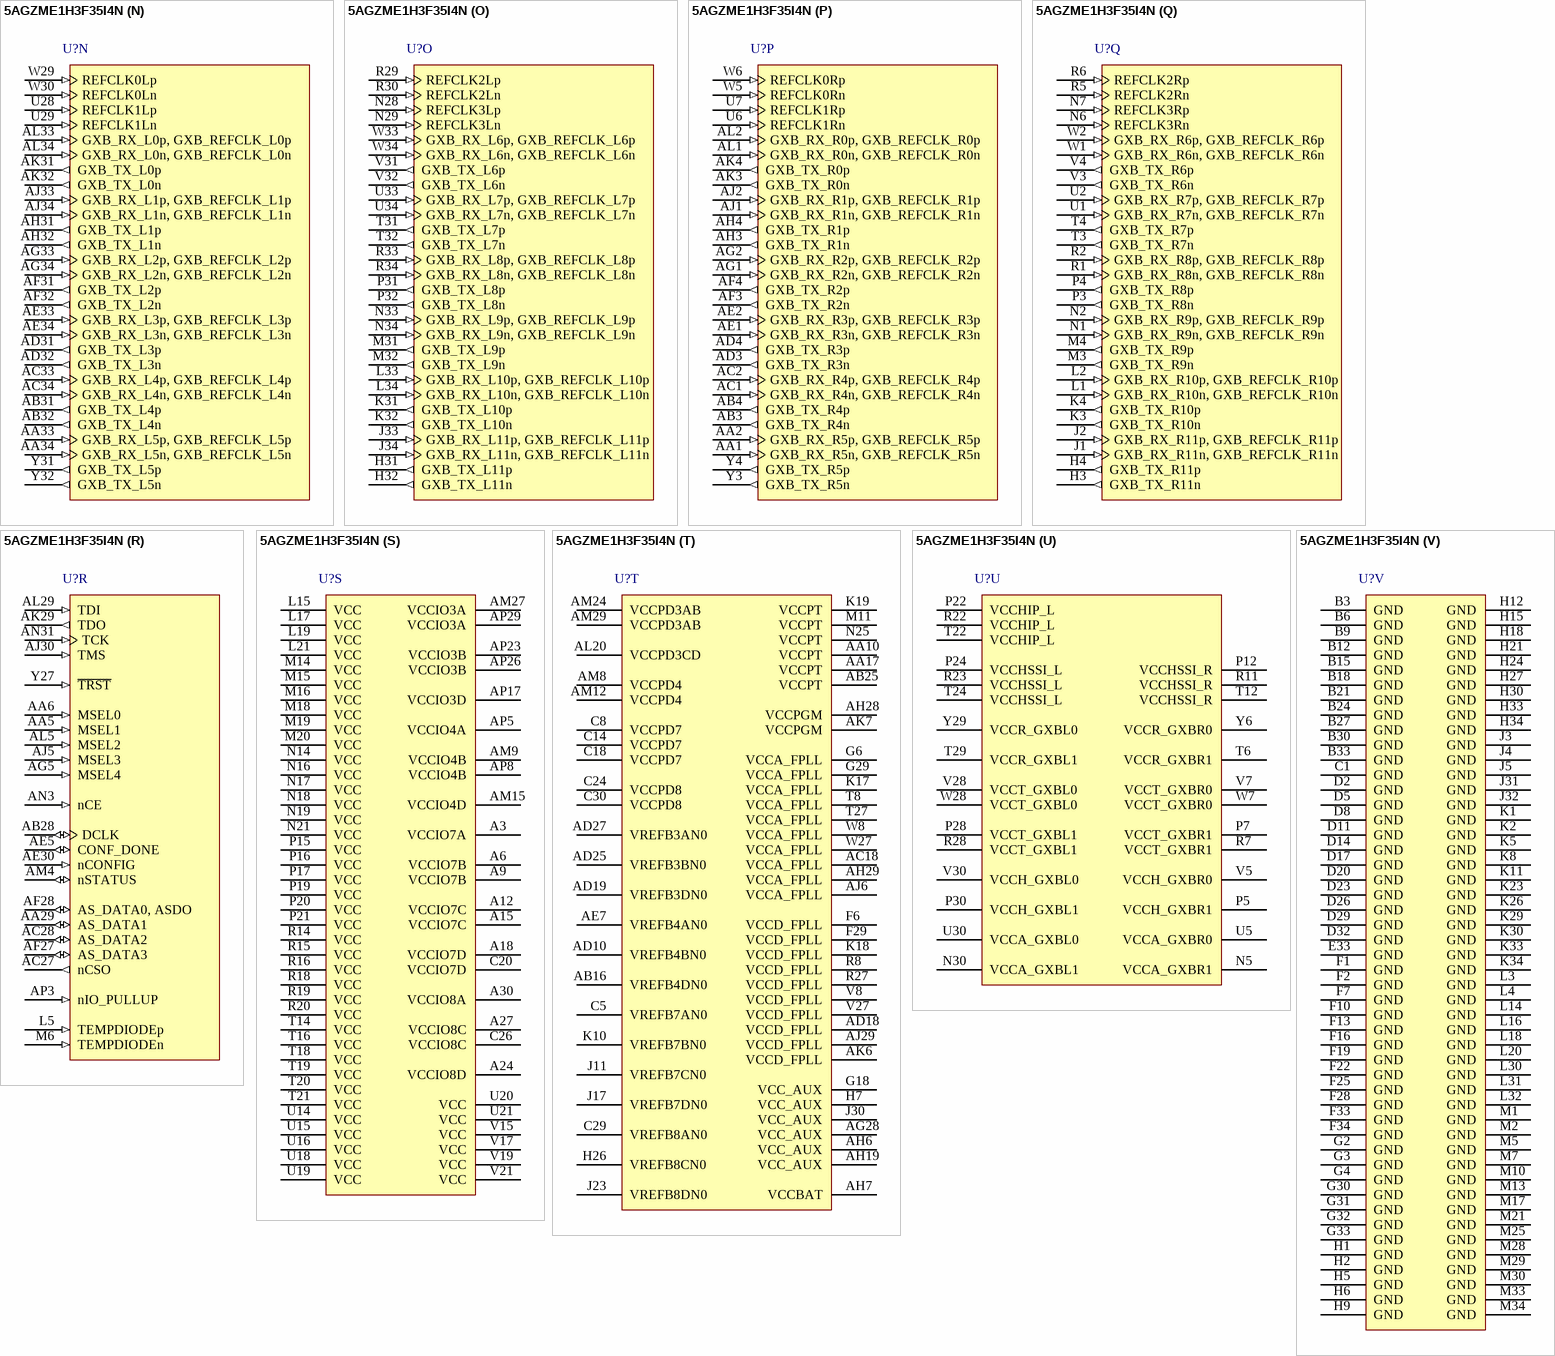
[diagram p36: symbol 5AGZME1H3F35I4N]

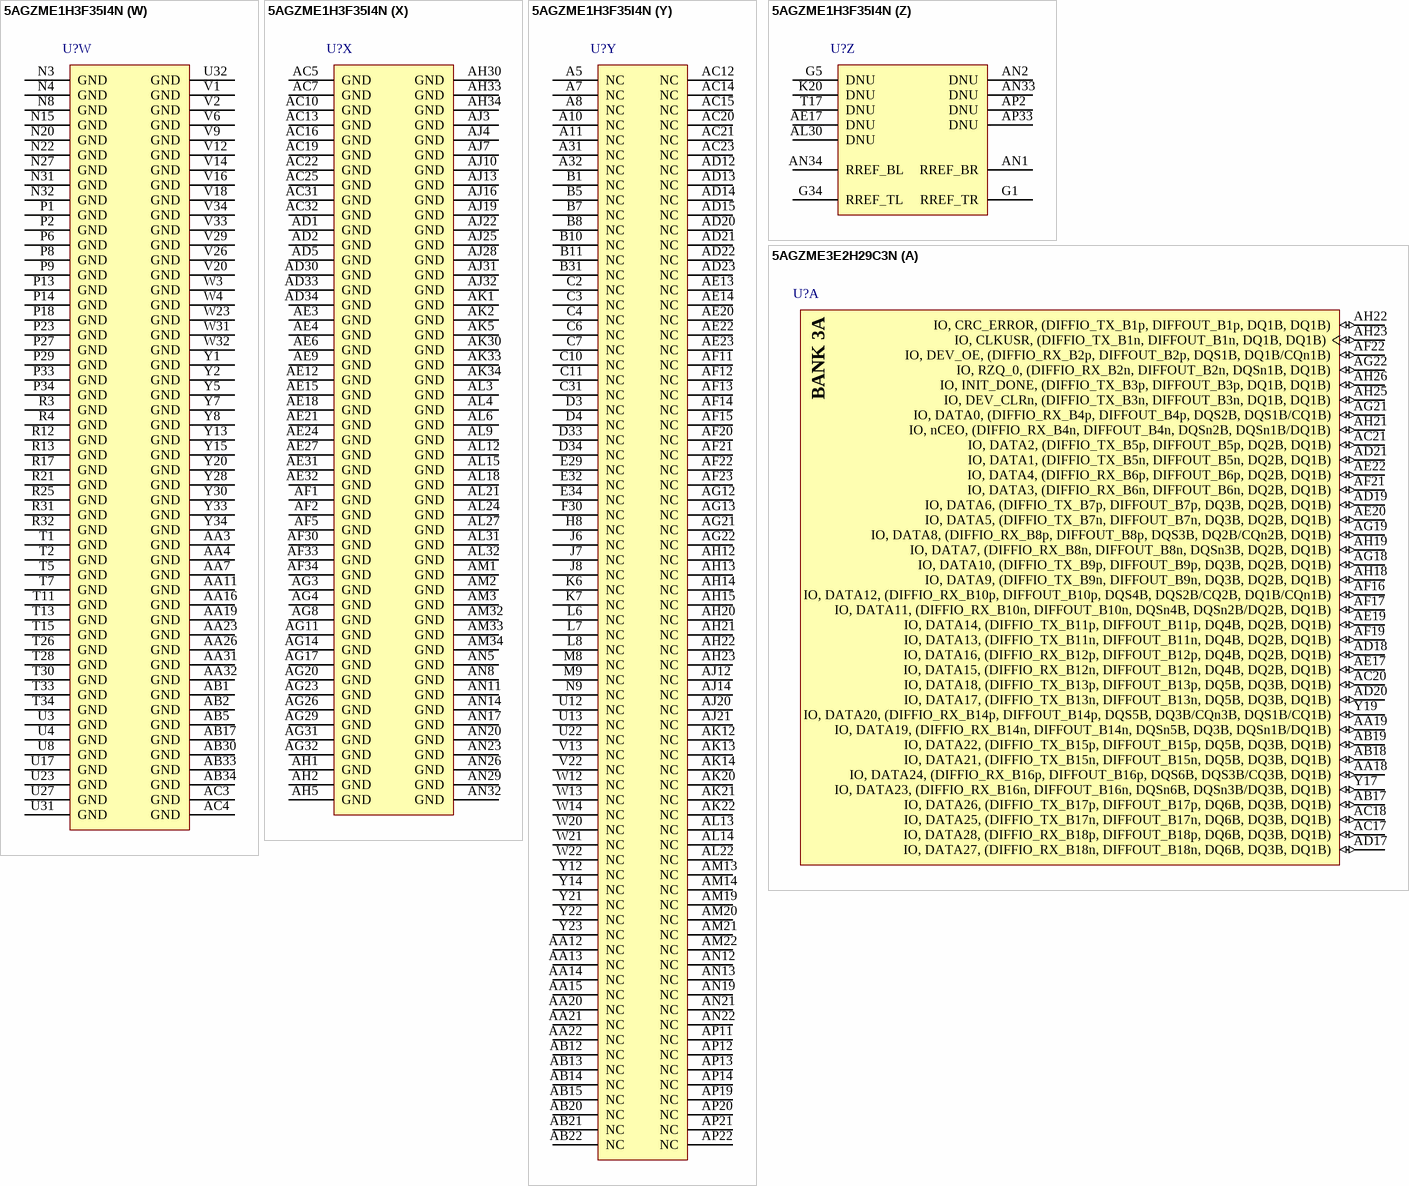
[diagram p37: symbols 5AGZME1H3F35I4N to 5AGZME3E2H29C3N]